# Altium integrated library Lattice CPLD ispMACH 5000VG.IntLib: 24 symbols (part 2 of 5)
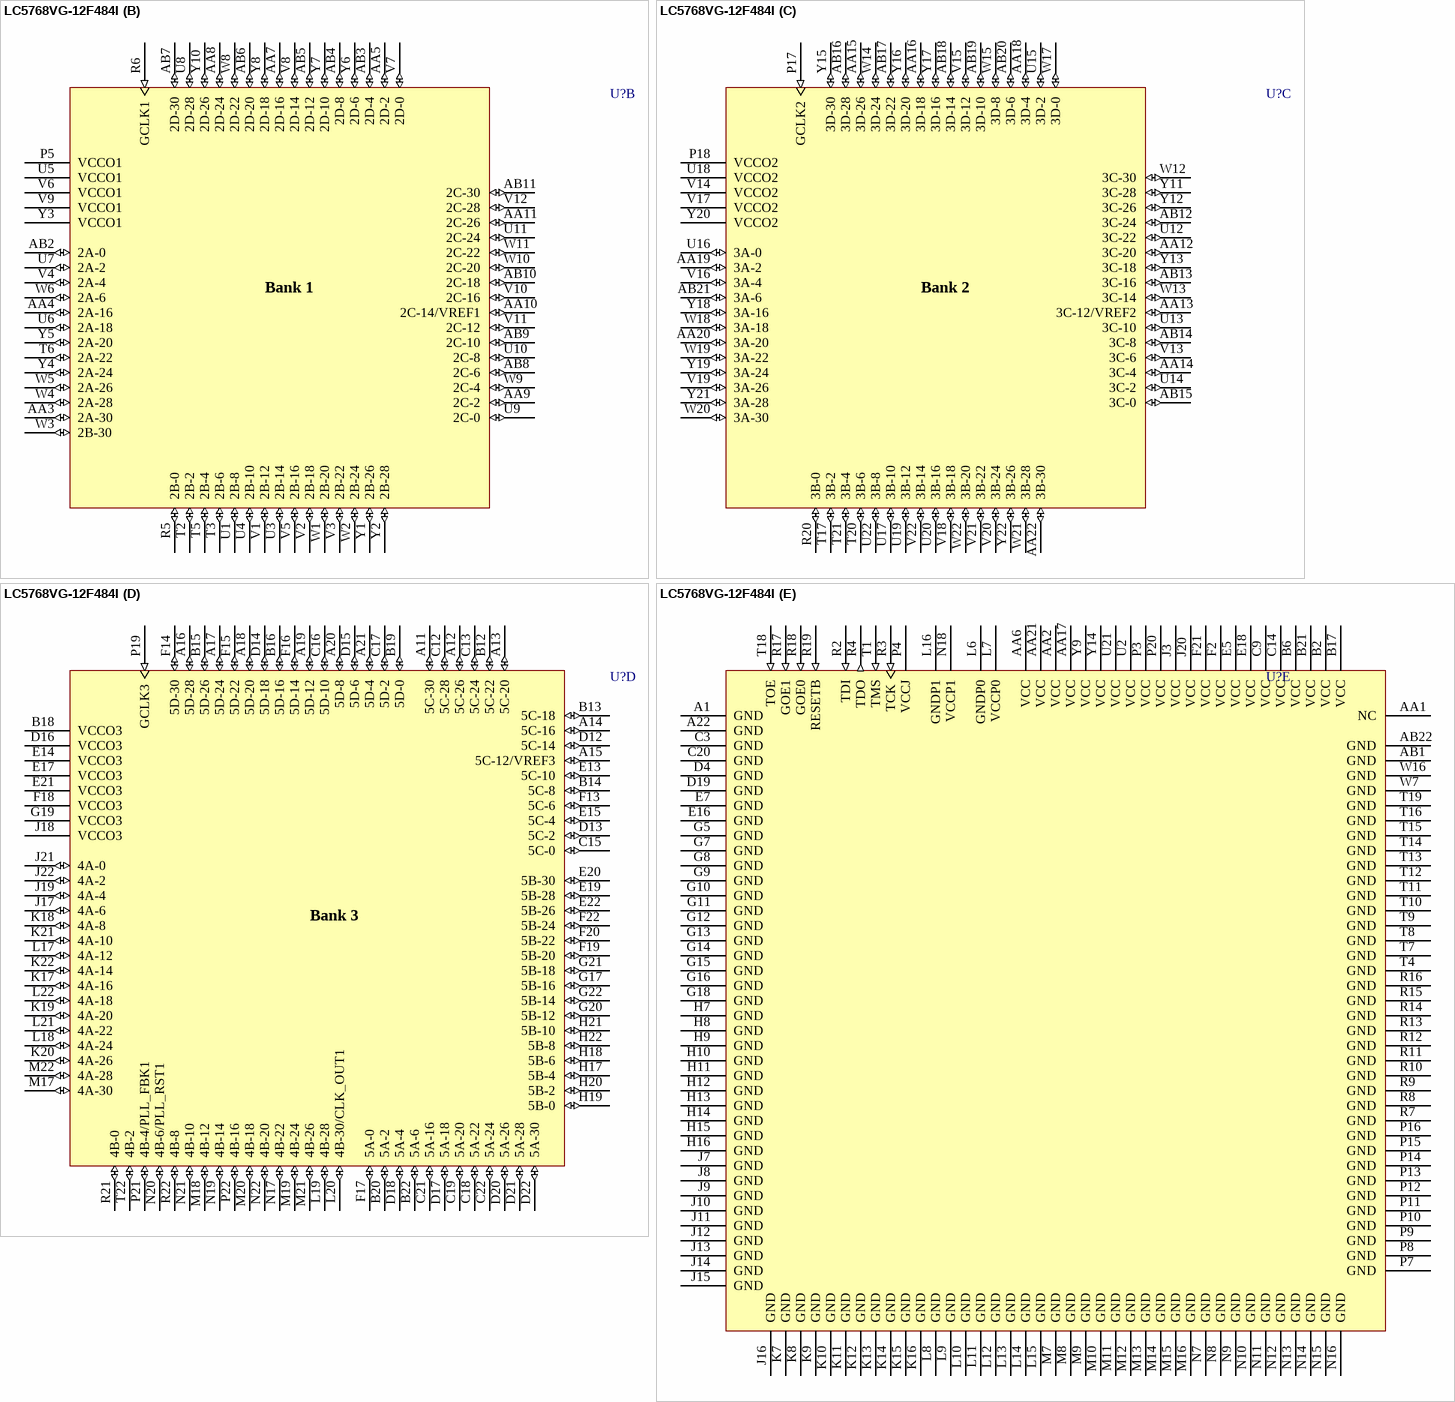
[diagram p34: symbol LC5768VG-12F484I]

## LC5768VG-12F484I
designator U?
ispMACH 5768VG SuperBIG, SuperWIDE, High Density PLD, 3.3 V, 304 User I/Os, 484-Ball fpBGA, 12 ns, Industrial Grade; Published: 17-Dec-2003; LatestRevisionDate: 13-Apr-2006; LatestRevisionNote: IPC-7351 Footprint Added.; DatasheetVersion: 5kvg_09; PackageVersion: pkg_32, Aug-2005; PackageReference: fpBGA484; Publisher: Altium Limited; PackageDescription: 484-Ball Fine Pitch Ball Grid Array (fpBGA484); Code_IPC: BGA100P22X22-484; ComponentLink1Description: Manufacturer Link; ComponentLink1URL: http://www.latticesemi.com/; ComponentLink2Description: Datasheet; ComponentLink2URL: http://www.latticesemi.com/account/_download.cfm?AMID=3480; ComponentLink3Description: Lattice Login; ComponentLink3URL: http://www.latticesemi.com/account/login.cfm
footprint fpBGA484 (BGA, 484-Leads, Body 23x23mm, Pitch 1mm)
3D model 5768VG-fpBGA484 (484-Ball Fine Pitch Ball Grid Array (fpBGA484))
part A pins: A2 0D-2 (io), A3 0D-4 (io), A4 0D-0 (io), A5 0D-12 (io), A6 0D-24 (io), A7 0C-2 (io), A8 0C-6 (io), A9 0C-14/VREF0 (io), A10 0C-18 (io), B1 0A-20 (io), B3 0A-6 (io), B4 0A-16 (io), B5 VCCO0 (power), B7 0D-16 (io), B8 0D-30 (io), B9 0C-10 (io), B10 0C-20 (io), B11 0C-28 (io), C1 0A-30 (io), C2 0A-28 (io), C4 0A-24 (io), C5 0A-2 (io), C6 0D-8 (io), C7 0D-20 (io), C8 0D-28 (io), C10 0C-4 (io), C11 0C-24 (io), D1 0B-30 (io), D2 0B-28 (io), D3 0B-26 (io), D5 0A-18 (io), D6 0A-22 (io), D7 VCCO0 (power), D8 0D-6 (io), D9 0D-18 (io), D10 0C-16 (io), D11 0C-30 (io), E1 0B-24 (io), E2 VCCO0 (power), E3 0B-22 (io), E4 0A-26 (io), E6 VCCO0 (power), E8 0D-14 (io), E9 VCCO0 (power), E10 0C-0 (io), E11 0C-12 (io), E12 0C-26 (io), F1 0B-18 (io), F3 0B-16 (io), F4 0B-20 (io), F5 VCCO0 (power), F6 0A-4 (io), F7 0A-0 (io), F8 0D-10 (io), F9 0D-22 (io), F10 0D-26 (io), F11 0C-8 (io), F12 0C-22 (io), G1 0B-12 (io), G2 0B-10 (io), G3 0B-6 (io), G4 VCCO0 (power), G6 0B-14 (io), H1 0B-8 (io), H2 0B-4 (io), H3 1A-4 (io), H4 1A-8 (io), H5 0B-2 (io), H6 0B-0 (io), J1 1A-0 (io), J2 1A-6 (io), J4 1A-18 (io), J5 VCCO0 (power), J6 1A-12 (io), K1 1A-2 (io), K2 1A-10 (io), K3 1A-16 (io), K4 1A-26 (io), K5 1A-30 (io), K6 1A-24 (io), L1 1A-14 (io), L2 1A-20 (io), L3 1A-28 (io), L4 1B-24 (io), L5 1B-18 (io), M1 1A-22 (io), M2 1B-28 (io), M3 1B-20 (io), M4 1B-6/PLL_RST0 (io), M5 1B-8 (io), M6 1B-10 (io), N1 1B-30/CLK_OUT0 (io), N2 1B-22 (io), N3 1B-12 (io), N4 1B-4/PLL_FBK0 (io), N5 1B-0 (io), N6 1B-2 (io), P1 1B-26 (io), P2 1B-14 (io), P6 GCLK0 (in), R1 1B-16 (io)
part B pins: AA3 2A-30 (io), AA4 2A-16 (io), AA5 2D-2 (io), AA7 2D-16 (io), AA8 2D-24 (io), AA9 2C-2 (io), AA10 2C-14/VREF1 (io), AA11 2C-26 (io), AB2 2A-0 (io), AB3 2D-4 (io), AB4 2D-8 (io), AB5 2D-12 (io), AB6 2D-20 (io), AB7 2D-30 (io), AB8 2C-6 (io), AB9 2C-10 (io), AB10 2C-18 (io), AB11 2C-30 (io), P5 VCCO1 (power), R5 2B-0 (io), R6 GCLK1 (in), T2 2B-2 (io), T3 2B-6 (io), T5 2B-4 (io), T6 2A-22 (io), U1 2B-8 (io), U3 2B-14 (io), U4 2B-10 (io), U5 VCCO1 (power), U6 2A-18 (io), U7 2A-2 (io), U8 2D-28 (io), U9 2C-0 (io), U10 2C-8 (io), U11 2C-24 (io), V1 2B-12 (io), V2 2B-18 (io), V3 2B-22 (io), V4 2A-4 (io), V5 2B-16 (io), V6 VCCO1 (power), V7 2D-0 (io), V8 2D-14 (io), V9 VCCO1 (power), V10 2C-16 (io), V11 2C-12 (io), V12 2C-28 (io), W1 2B-20 (io), W2 2B-24 (io), W3 2B-30 (io), W4 2A-28 (io), W5 2A-26 (io), W6 2A-6 (io), W8 2D-22 (io), W9 2C-4 (io), W10 2C-20 (io), W11 2C-22 (io), Y1 2B-26 (io), Y2 2B-28 (io), Y3 VCCO1 (power), Y4 2A-24 (io), Y5 2A-20 (io), Y6 2D-6 (io), Y7 2D-10 (io), Y8 2D-18 (io), Y10 2D-26 (io)
part C pins: AA12 3C-20 (io), AA13 3C-12/VREF2 (io), AA14 3C-4 (io), AA15 3D-26 (io), AA16 3D-18 (io), AA18 3D-4 (io), AA19 3A-2 (io), AA20 3A-20 (io), AA22 3B-30 (io), AB12 3C-24 (io), AB13 3C-16 (io), AB14 3C-8 (io), AB15 3C-0 (io), AB16 3D-28 (io), AB17 3D-22 (io), AB18 3D-14 (io), AB19 3D-10 (io), AB20 3D-6 (io), AB21 3A-6 (io), P17 GCLK2 (in), P18 VCCO2 (power), R20 3B-0 (io), T17 3B-2 (io), T20 3B-6 (io), T21 3B-4 (io), U12 3C-22 (io), U13 3C-10 (io), U14 3C-2 (io), U15 3D-2 (io), U16 3A-0 (io), U17 3B-10 (io), U18 VCCO2 (power), U19 3B-12 (io), U20 3B-16 (io), U22 3B-8 (io), V13 3C-6 (io), V14 VCCO2 (power), V15 3D-12 (io), V16 3A-4 (io), V17 VCCO2 (power), V18 3B-18 (io), V19 3A-26 (io), V20 3B-24 (io), V21 3B-22 (io), V22 3B-14 (io), W12 3C-30 (io), W13 3C-14 (io), W14 3D-24 (io), W15 3D-8 (io), W17 3D-0 (io), W18 3A-18 (io), W19 3A-22 (io), W20 3A-30 (io), W21 3B-28 (io), W22 3B-20 (io), Y11 3C-28 (io), Y12 3C-26 (io), Y13 3C-18 (io), Y15 3D-30 (io), Y16 3D-20 (io), Y17 3D-16 (io), Y18 3A-16 (io), Y19 3A-24 (io), Y20 VCCO2 (power), Y21 3A-28 (io), Y22 3B-26 (io)
part D pins: A11 5C-30 (io), A12 5C-26 (io), A13 5C-20 (io), A14 5C-16 (io), A15 5C-12/VREF3 (io), A16 5D-28 (io), A17 5D-24 (io), A18 5D-20 (io), A19 5D-12 (io), A20 5D-8 (io), A21 5D-4 (io), B12 5C-22 (io), B13 5C-18 (io), B14 5C-8 (io), B15 5D-26 (io), B16 5D-16 (io), B18 VCCO3 (power), B19 5D-0 (io), B20 5A-2 (io), B22 5A-6 (io), C12 5C-28 (io), C13 5C-24 (io), C15 5C-0 (io), C16 5D-10 (io), C17 5D-2 (io), C18 5A-22 (io), C19 5A-20 (io), C21 5A-16 (io), C22 5A-24 (io), D12 5C-14 (io), D13 5C-2 (io), D14 5D-18 (io), D15 5D-6 (io), D16 VCCO3 (power), D17 5A-18 (io), D18 5A-4 (io), D20 5A-26 (io), D21 5A-28 (io), D22 5A-30 (io), E13 5C-10 (io), E14 VCCO3 (power), E15 5C-4 (io), E17 VCCO3 (power), E19 5B-28 (io), E20 5B-30 (io), E21 VCCO3 (power), E22 5B-26 (io), F13 5C-6 (io), F14 5D-30 (io), F15 5D-22 (io), F16 5D-14 (io), F17 5A-0 (io), F18 VCCO3 (power), F19 5B-20 (io), F20 5B-22 (io), F22 5B-24 (io), G17 5B-16 (io), G19 VCCO3 (power), G20 5B-12 (io), G21 5B-18 (io), G22 5B-14 (io), H17 5B-4 (io), H18 5B-6 (io), H19 5B-0 (io), H20 5B-2 (io), H21 5B-10 (io), H22 5B-8 (io), J17 4A-6 (io), J18 VCCO3 (power), J19 4A-4 (io), J21 4A-0 (io), J22 4A-2 (io), K17 4A-16 (io), K18 4A-8 (io), K19 4A-20 (io), K20 4A-26 (io), K21 4A-10 (io), K22 4A-14 (io), L17 4A-12 (io), L18 4A-24 (io), L19 4B-28 (io), L20 4B-30/CLK_OUT1 (io), L21 4A-22 (io), L22 4A-18 (io), M17 4A-30 (io), M18 4B-12 (io), M19 4B-24 (io), M20 4B-18 (io), M21 4B-26 (io), M22 4A-28 (io), N17 4B-22 (io), N19 4B-14 (io), N20 4B-6/PLL_RST1 (io), N21 4B-10 (io), N22 4B-20 (io), P19 GCLK3 (in), P21 4B-4/PLL_FBK1 (io), P22 4B-16 (io), R21 4B-0 (io), R22 4B-8 (io), T22 4B-2 (io)
part E pins: A1 GND (power), A22 GND (power), AA1 NC, AA2 VCC (power), AA6 VCC (power), AA17 VCC (power), AA21 VCC (power), AB1 GND (power), AB22 GND (power), B2 VCC (power), B6 VCC (power), B17 VCC (power), B21 VCC (power), C3 GND (power), C9 VCC (power), C14 VCC (power), C20 GND (power), D4 GND (power), D19 GND (power), E5 VCC (power), E7 GND (power), E16 GND (power), E18 VCC (power), F2 VCC (power), F21 VCC (power), G5 GND (power), G7 GND (power), G8 GND (power), G9 GND (power), G10 GND (power), G11 GND (power), G12 GND (power), G13 GND (power), G14 GND (power), G15 GND (power), G16 GND (power), G18 GND (power), H7 GND (power), H8 GND (power), H9 GND (power), H10 GND (power), H11 GND (power), H12 GND (power), H13 GND (power), H14 GND (power), H15 GND (power), H16 GND (power), J3 VCC (power), J7 GND (power), J8 GND (power), J9 GND (power), J10 GND (power), J11 GND (power), J12 GND (power), J13 GND (power), J14 GND (power), J15 GND (power), J16 GND (power), J20 VCC (power), K7 GND (power), K8 GND (power), K9 GND (power), K10 GND (power), K11 GND (power), K12 GND (power), K13 GND (power), K14 GND (power), K15 GND (power), K16 GND (power), L6 GNDP0 (power), L7 VCCP0 (power), L8 GND (power), L9 GND (power), L10 GND (power), L11 GND (power), L12 GND (power), L13 GND (power), L14 GND (power), L15 GND (power), L16 GNDP1 (power), M7 GND (power), M8 GND (power), M9 GND (power), M10 GND (power), M11 GND (power), M12 GND (power), M13 GND (power), M14 GND (power), M15 GND (power), M16 GND (power), N7 GND (power), N8 GND (power), N9 GND (power), N10 GND (power), N11 GND (power), N12 GND (power), N13 GND (power), N14 GND (power), N15 GND (power), N16 GND (power), N18 VCCP1 (power), P3 VCC (power), P4 VCCJ (power), P7 GND (power), P8 GND (power), P9 GND (power), P10 GND (power), P11 GND (power), P12 GND (power), P13 GND (power), P14 GND (power), P15 GND (power), P16 GND (power), P20 VCC (power), R2 TDI (in), R3 TCK (in), R4 TDO (out), R7 GND (power), R8 GND (power), R9 GND (power), R10 GND (power), R11 GND (power), R12 GND (power), R13 GND (power), R14 GND (power), R15 GND (power), R16 GND (power), R17 GOE1 (in), R18 GOE0 (in), R19 RESETB (in), T1 TMS (in), T4 GND (power), T7 GND (power), T8 GND (power), T9 GND (power), T10 GND (power), T11 GND (power), T12 GND (power), T13 GND (power), T14 GND (power), T15 GND (power), T16 GND (power), T18 TOE (in), T19 GND (power), U2 VCC (power), U21 VCC (power), W7 GND (power), W16 GND (power), Y9 VCC (power), Y14 VCC (power)
part A text: Bank 0
part B text: Bank 1
part C text: Bank 2
part D text: Bank 3

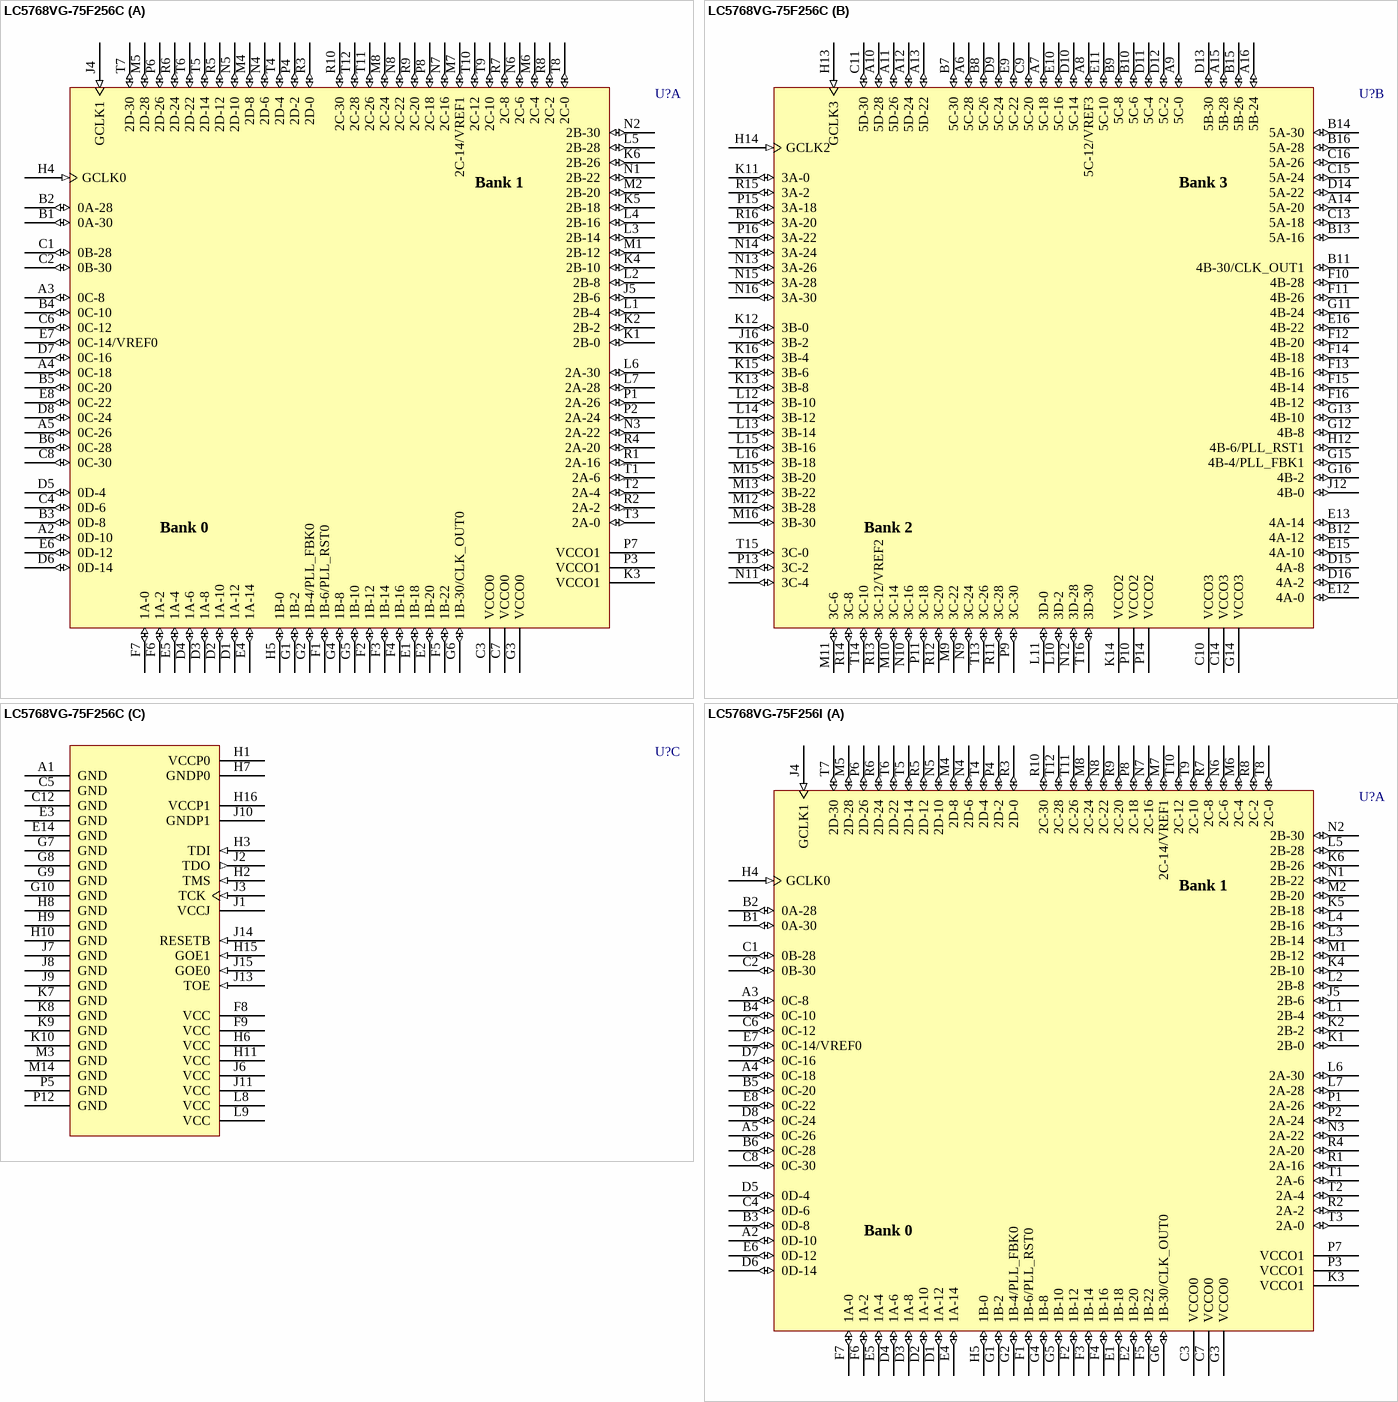
[diagram p8: symbols LC5768VG-75F256C to LC5768VG-75F256I]

## LC5768VG-75F256C
designator U?
ispMACH 5768VG SuperBIG, SuperWIDE, High Density PLD, 3.3 V, 196 User I/Os, 256-Ball fpBGA, 7.5 ns, Commercial Grade; Published: 17-Dec-2003; LatestRevisionDate: 13-Apr-2006; LatestRevisionNote: IPC-7351 Footprint Added.; DatasheetVersion: 5kvg_09; PackageVersion: pkg_32, Aug-2005; PackageReference: fpBGA256; Publisher: Altium Limited; PackageDescription: 256-Ball Fine Pitch Ball Grid Array (fpBGA256); Code_IPC: BGA100P16X16-256; ComponentLink1Description: Manufacturer Link; ComponentLink1URL: http://www.latticesemi.com/; ComponentLink2Description: Datasheet; ComponentLink2URL: http://www.latticesemi.com/account/_download.cfm?AMID=3480; ComponentLink3Description: Lattice Login; ComponentLink3URL: http://www.latticesemi.com/account/login.cfm
footprint fpBGA256 (BGA, 256-Leads, Body 17x17mm, Pitch 1mm)
3D model 5768VG-fpBGA256 (256-Ball Fine Pitch Ball Grid Array (fpBGA256))
part A pins: A2 0D-10 (io), A3 0C-8 (io), A4 0C-18 (io), A5 0C-26 (io), B1 0A-30 (io), B2 0A-28 (io), B3 0D-8 (io), B4 0C-10 (io), B5 0C-20 (io), B6 0C-28 (io), C1 0B-28 (io), C2 0B-30 (io), C3 VCCO0 (power), C4 0D-6 (io), C6 0C-12 (io), C7 VCCO0 (power), C8 0C-30 (io), D1 1A-12 (io), D2 1A-10 (io), D3 1A-8 (io), D4 1A-6 (io), D5 0D-4 (io), D6 0D-14 (io), D7 0C-16 (io), D8 0C-24 (io), E1 1B-18 (io), E2 1B-20 (io), E4 1A-14 (io), E5 1A-4 (io), E6 0D-12 (io), E7 0C-14/VREF0 (io), E8 0C-22 (io), F1 1B-6/PLL_RST0 (io), F2 1B-12 (io), F3 1B-14 (io), F4 1B-16 (io), F5 1B-22 (io), F6 1A-2 (io), F7 1A-0 (io), G1 1B-2 (io), G2 1B-4/PLL_FBK0 (io), G3 VCCO0 (power), G4 1B-8 (io), G5 1B-10 (io), G6 1B-30/CLK_OUT0 (io), H4 GCLK0 (in), H5 1B-0 (io), J4 GCLK1 (in), J5 2B-6 (io), K1 2B-0 (io), K2 2B-2 (io), K3 VCCO1 (power), K4 2B-10 (io), K5 2B-18 (io), K6 2B-26 (io), L1 2B-4 (io), L2 2B-8 (io), L3 2B-14 (io), L4 2B-16 (io), L5 2B-28 (io), L6 2A-30 (io), L7 2A-28 (io), M1 2B-12 (io), M2 2B-20 (io), M4 2D-8 (io), M5 2D-28 (io), M6 2C-4 (io), M7 2C-14/VREF1 (io), M8 2C-24 (io), N1 2B-22 (io), N2 2B-30 (io), N3 2A-22 (io), N4 2D-6 (io), N5 2D-10 (io), N6 2C-6 (io), N7 2C-16 (io), N8 2C-22 (io), P1 2A-26 (io), P2 2A-24 (io), P3 VCCO1 (power), P4 2D-2 (io), P6 2D-26 (io), P7 VCCO1 (power), P8 2C-18 (io), R1 2A-16 (io), R2 2A-2 (io), R3 2D-0 (io), R4 2A-20 (io), R5 2D-12 (io), R6 2D-24 (io), R7 2C-8 (io), R8 2C-2 (io), R9 2C-20 (io), R10 2C-30 (io), T1 2A-6 (io), T2 2A-4 (io), T3 2A-0 (io), T4 2D-4 (io), T5 2D-14 (io), T6 2D-22 (io), T7 2D-30 (io), T8 2C-0 (io), T9 2C-10 (io), T10 2C-12 (io), T11 2C-26 (io), T12 2C-28 (io)
part B pins: A6 5C-28 (io), A7 5C-18 (io), A8 5C-12/VREF3 (io), A9 5C-0 (io), A10 5D-28 (io), A11 5D-26 (io), A12 5D-24 (io), A13 5D-22 (io), A14 5A-20 (io), A15 5B-28 (io), A16 5B-24 (io), B7 5C-30 (io), B8 5C-26 (io), B9 5C-8 (io), B10 5C-6 (io), B11 4B-30/CLK_OUT1 (io), B12 4A-12 (io), B13 5A-16 (io), B14 5A-30 (io), B15 5B-26 (io), B16 5A-28 (io), C9 5C-20 (io), C10 VCCO3 (power), C11 5D-30 (io), C13 5A-18 (io), C14 VCCO3 (power), C15 5A-24 (io), C16 5A-26 (io), D9 5C-24 (io), D10 5C-14 (io), D11 5C-4 (io), D12 5C-2 (io), D13 5B-30 (io), D14 5A-22 (io), D15 4A-8 (io), D16 4A-2 (io), E9 5C-22 (io), E10 5C-16 (io), E11 5C-10 (io), E12 4A-0 (io), E13 4A-14 (io), E15 4A-10 (io), E16 4B-22 (io), F10 4B-28 (io), F11 4B-26 (io), F12 4B-20 (io), F13 4B-16 (io), F14 4B-18 (io), F15 4B-14 (io), F16 4B-12 (io), G11 4B-24 (io), G12 4B-8 (io), G13 4B-10 (io), G14 VCCO3 (power), G15 4B-4/PLL_FBK1 (io), G16 4B-2 (io), H12 4B-6/PLL_RST1 (io), H13 GCLK3 (in), H14 GCLK2 (in), J12 4B-0 (io), J16 3B-2 (io), K11 3A-0 (io), K12 3B-0 (io), K13 3B-8 (io), K14 VCCO2 (power), K15 3B-6 (io), K16 3B-4 (io), L10 3D-2 (io), L11 3D-0 (io), L12 3B-10 (io), L13 3B-14 (io), L14 3B-12 (io), L15 3B-16 (io), L16 3B-18 (io), M9 3C-22 (io), M10 3C-14 (io), M11 3C-6 (io), M12 3B-28 (io), M13 3B-22 (io), M15 3B-20 (io), M16 3B-30 (io), N9 3C-24 (io), N10 3C-16 (io), N11 3C-4 (io), N12 3D-28 (io), N13 3A-26 (io), N14 3A-24 (io), N15 3A-28 (io), N16 3A-30 (io), P9 3C-30 (io), P10 VCCO2 (power), P11 3C-18 (io), P13 3C-2 (io), P14 VCCO2 (power), P15 3A-18 (io), P16 3A-22 (io), R11 3C-28 (io), R12 3C-20 (io), R13 3C-12/VREF2 (io), R14 3C-8 (io), R15 3A-2 (io), R16 3A-20 (io), T13 3C-26 (io), T14 3C-10 (io), T15 3C-0 (io), T16 3D-30 (io)
part C pins: A1 GND (power), C5 GND (power), C12 GND (power), E3 GND (power), E14 GND (power), F8 VCC (power), F9 VCC (power), G7 GND (power), G8 GND (power), G9 GND (power), G10 GND (power), H1 VCCP0 (power), H2 TMS (in), H3 TDI (in), H6 VCC (power), H7 GNDP0 (power), H8 GND (power), H9 GND (power), H10 GND (power), H11 VCC (power), H15 GOE1 (in), H16 VCCP1 (power), J1 VCCJ (power), J2 TDO (out), J3 TCK (in), J6 VCC (power), J7 GND (power), J8 GND (power), J9 GND (power), J10 GNDP1 (power), J11 VCC (power), J13 TOE (in), J14 RESETB (in), J15 GOE0 (in), K7 GND (power), K8 GND (power), K9 GND (power), K10 GND (power), L8 VCC (power), L9 VCC (power), M3 GND (power), M14 GND (power), P5 GND (power), P12 GND (power)
part A text: Bank 1; Bank 0
part B text: Bank 3; Bank 2

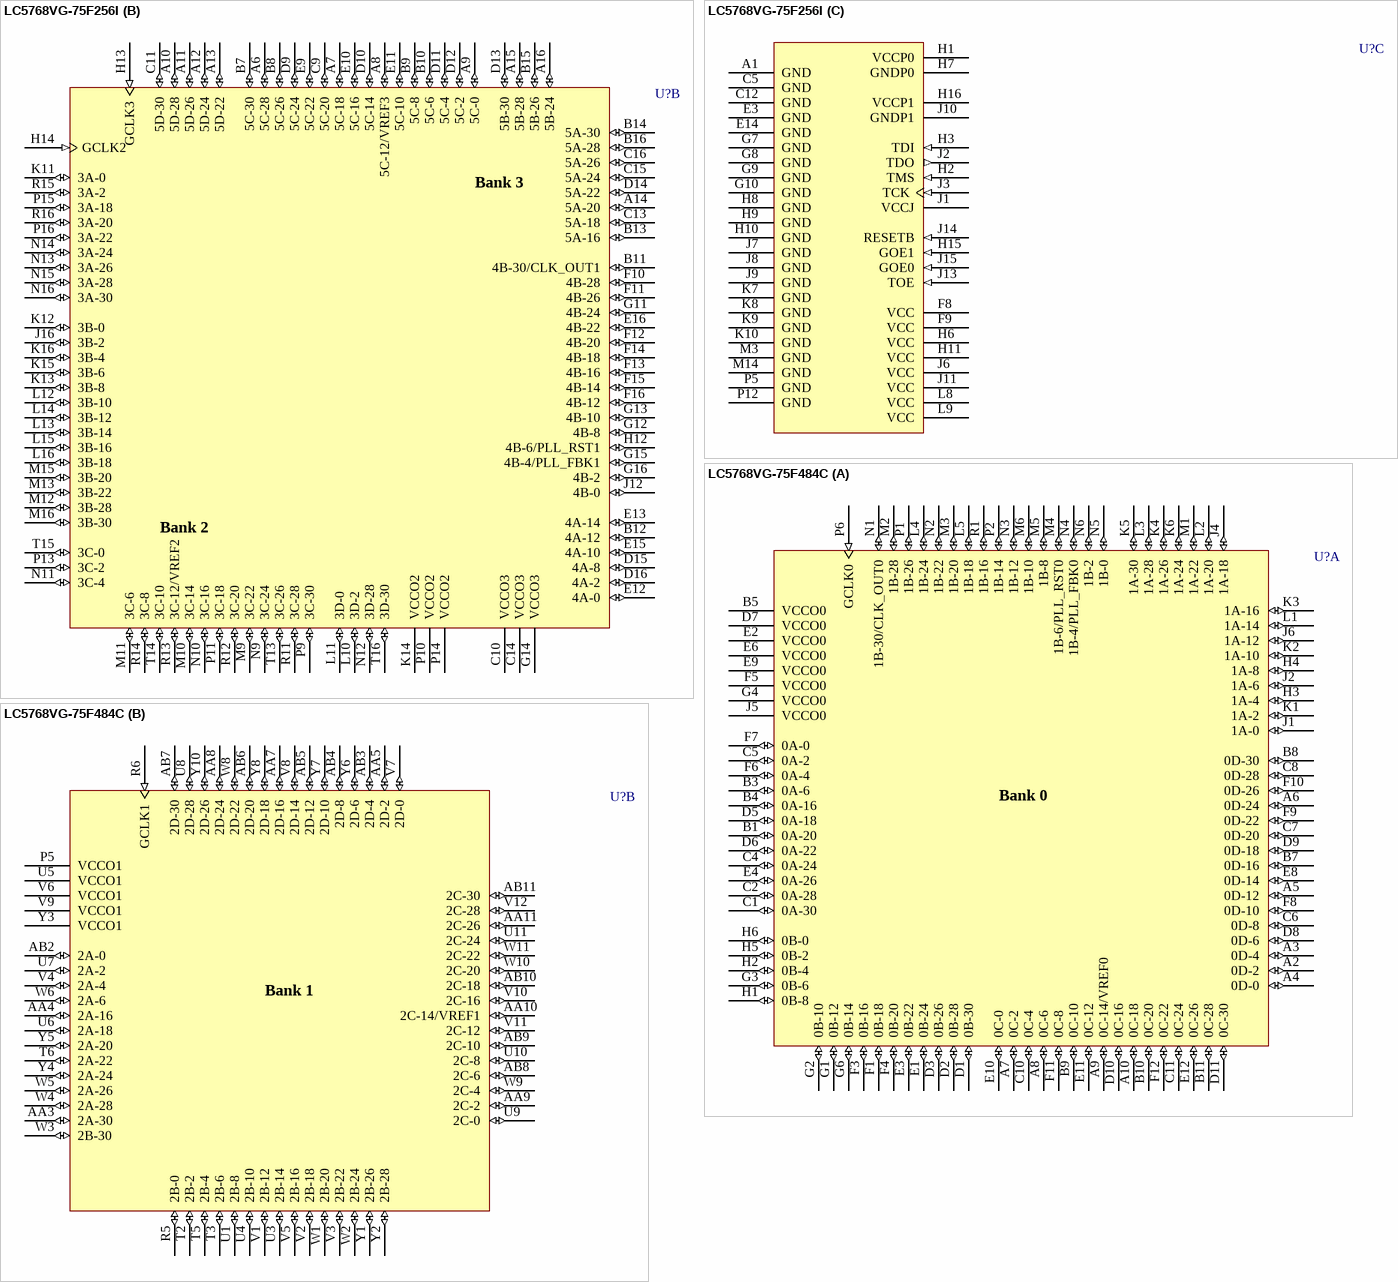
[diagram p9: symbols LC5768VG-75F256I to LC5768VG-75F484C]

## LC5768VG-75F256I
designator U?
ispMACH 5768VG SuperBIG, SuperWIDE, High Density PLD, 3.3 V, 196 User I/Os, 256-Ball fpBGA, 7.5 ns, Industrial Grade; Published: 17-Dec-2003; LatestRevisionDate: 13-Apr-2006; LatestRevisionNote: IPC-7351 Footprint Added.; DatasheetVersion: 5kvg_09; PackageVersion: pkg_32, Aug-2005; PackageReference: fpBGA256; Publisher: Altium Limited; PackageDescription: 256-Ball Fine Pitch Ball Grid Array (fpBGA256); Code_IPC: BGA100P16X16-256; ComponentLink1Description: Manufacturer Link; ComponentLink1URL: http://www.latticesemi.com/; ComponentLink2Description: Datasheet; ComponentLink2URL: http://www.latticesemi.com/account/_download.cfm?AMID=3480; ComponentLink3Description: Lattice Login; ComponentLink3URL: http://www.latticesemi.com/account/login.cfm
footprint fpBGA256 (BGA, 256-Leads, Body 17x17mm, Pitch 1mm)
3D model 5768VG-fpBGA256 (256-Ball Fine Pitch Ball Grid Array (fpBGA256))
part A pins: A2 0D-10 (io), A3 0C-8 (io), A4 0C-18 (io), A5 0C-26 (io), B1 0A-30 (io), B2 0A-28 (io), B3 0D-8 (io), B4 0C-10 (io), B5 0C-20 (io), B6 0C-28 (io), C1 0B-28 (io), C2 0B-30 (io), C3 VCCO0 (power), C4 0D-6 (io), C6 0C-12 (io), C7 VCCO0 (power), C8 0C-30 (io), D1 1A-12 (io), D2 1A-10 (io), D3 1A-8 (io), D4 1A-6 (io), D5 0D-4 (io), D6 0D-14 (io), D7 0C-16 (io), D8 0C-24 (io), E1 1B-18 (io), E2 1B-20 (io), E4 1A-14 (io), E5 1A-4 (io), E6 0D-12 (io), E7 0C-14/VREF0 (io), E8 0C-22 (io), F1 1B-6/PLL_RST0 (io), F2 1B-12 (io), F3 1B-14 (io), F4 1B-16 (io), F5 1B-22 (io), F6 1A-2 (io), F7 1A-0 (io), G1 1B-2 (io), G2 1B-4/PLL_FBK0 (io), G3 VCCO0 (power), G4 1B-8 (io), G5 1B-10 (io), G6 1B-30/CLK_OUT0 (io), H4 GCLK0 (in), H5 1B-0 (io), J4 GCLK1 (in), J5 2B-6 (io), K1 2B-0 (io), K2 2B-2 (io), K3 VCCO1 (power), K4 2B-10 (io), K5 2B-18 (io), K6 2B-26 (io), L1 2B-4 (io), L2 2B-8 (io), L3 2B-14 (io), L4 2B-16 (io), L5 2B-28 (io), L6 2A-30 (io), L7 2A-28 (io), M1 2B-12 (io), M2 2B-20 (io), M4 2D-8 (io), M5 2D-28 (io), M6 2C-4 (io), M7 2C-14/VREF1 (io), M8 2C-24 (io), N1 2B-22 (io), N2 2B-30 (io), N3 2A-22 (io), N4 2D-6 (io), N5 2D-10 (io), N6 2C-6 (io), N7 2C-16 (io), N8 2C-22 (io), P1 2A-26 (io), P2 2A-24 (io), P3 VCCO1 (power), P4 2D-2 (io), P6 2D-26 (io), P7 VCCO1 (power), P8 2C-18 (io), R1 2A-16 (io), R2 2A-2 (io), R3 2D-0 (io), R4 2A-20 (io), R5 2D-12 (io), R6 2D-24 (io), R7 2C-8 (io), R8 2C-2 (io), R9 2C-20 (io), R10 2C-30 (io), T1 2A-6 (io), T2 2A-4 (io), T3 2A-0 (io), T4 2D-4 (io), T5 2D-14 (io), T6 2D-22 (io), T7 2D-30 (io), T8 2C-0 (io), T9 2C-10 (io), T10 2C-12 (io), T11 2C-26 (io), T12 2C-28 (io)
part B pins: A6 5C-28 (io), A7 5C-18 (io), A8 5C-12/VREF3 (io), A9 5C-0 (io), A10 5D-28 (io), A11 5D-26 (io), A12 5D-24 (io), A13 5D-22 (io), A14 5A-20 (io), A15 5B-28 (io), A16 5B-24 (io), B7 5C-30 (io), B8 5C-26 (io), B9 5C-8 (io), B10 5C-6 (io), B11 4B-30/CLK_OUT1 (io), B12 4A-12 (io), B13 5A-16 (io), B14 5A-30 (io), B15 5B-26 (io), B16 5A-28 (io), C9 5C-20 (io), C10 VCCO3 (power), C11 5D-30 (io), C13 5A-18 (io), C14 VCCO3 (power), C15 5A-24 (io), C16 5A-26 (io), D9 5C-24 (io), D10 5C-14 (io), D11 5C-4 (io), D12 5C-2 (io), D13 5B-30 (io), D14 5A-22 (io), D15 4A-8 (io), D16 4A-2 (io), E9 5C-22 (io), E10 5C-16 (io), E11 5C-10 (io), E12 4A-0 (io), E13 4A-14 (io), E15 4A-10 (io), E16 4B-22 (io), F10 4B-28 (io), F11 4B-26 (io), F12 4B-20 (io), F13 4B-16 (io), F14 4B-18 (io), F15 4B-14 (io), F16 4B-12 (io), G11 4B-24 (io), G12 4B-8 (io), G13 4B-10 (io), G14 VCCO3 (power), G15 4B-4/PLL_FBK1 (io), G16 4B-2 (io), H12 4B-6/PLL_RST1 (io), H13 GCLK3 (in), H14 GCLK2 (in), J12 4B-0 (io), J16 3B-2 (io), K11 3A-0 (io), K12 3B-0 (io), K13 3B-8 (io), K14 VCCO2 (power), K15 3B-6 (io), K16 3B-4 (io), L10 3D-2 (io), L11 3D-0 (io), L12 3B-10 (io), L13 3B-14 (io), L14 3B-12 (io), L15 3B-16 (io), L16 3B-18 (io), M9 3C-22 (io), M10 3C-14 (io), M11 3C-6 (io), M12 3B-28 (io), M13 3B-22 (io), M15 3B-20 (io), M16 3B-30 (io), N9 3C-24 (io), N10 3C-16 (io), N11 3C-4 (io), N12 3D-28 (io), N13 3A-26 (io), N14 3A-24 (io), N15 3A-28 (io), N16 3A-30 (io), P9 3C-30 (io), P10 VCCO2 (power), P11 3C-18 (io), P13 3C-2 (io), P14 VCCO2 (power), P15 3A-18 (io), P16 3A-22 (io), R11 3C-28 (io), R12 3C-20 (io), R13 3C-12/VREF2 (io), R14 3C-8 (io), R15 3A-2 (io), R16 3A-20 (io), T13 3C-26 (io), T14 3C-10 (io), T15 3C-0 (io), T16 3D-30 (io)
part C pins: A1 GND (power), C5 GND (power), C12 GND (power), E3 GND (power), E14 GND (power), F8 VCC (power), F9 VCC (power), G7 GND (power), G8 GND (power), G9 GND (power), G10 GND (power), H1 VCCP0 (power), H2 TMS (in), H3 TDI (in), H6 VCC (power), H7 GNDP0 (power), H8 GND (power), H9 GND (power), H10 GND (power), H11 VCC (power), H15 GOE1 (in), H16 VCCP1 (power), J1 VCCJ (power), J2 TDO (out), J3 TCK (in), J6 VCC (power), J7 GND (power), J8 GND (power), J9 GND (power), J10 GNDP1 (power), J11 VCC (power), J13 TOE (in), J14 RESETB (in), J15 GOE0 (in), K7 GND (power), K8 GND (power), K9 GND (power), K10 GND (power), L8 VCC (power), L9 VCC (power), M3 GND (power), M14 GND (power), P5 GND (power), P12 GND (power)
part A text: Bank 1; Bank 0
part B text: Bank 3; Bank 2

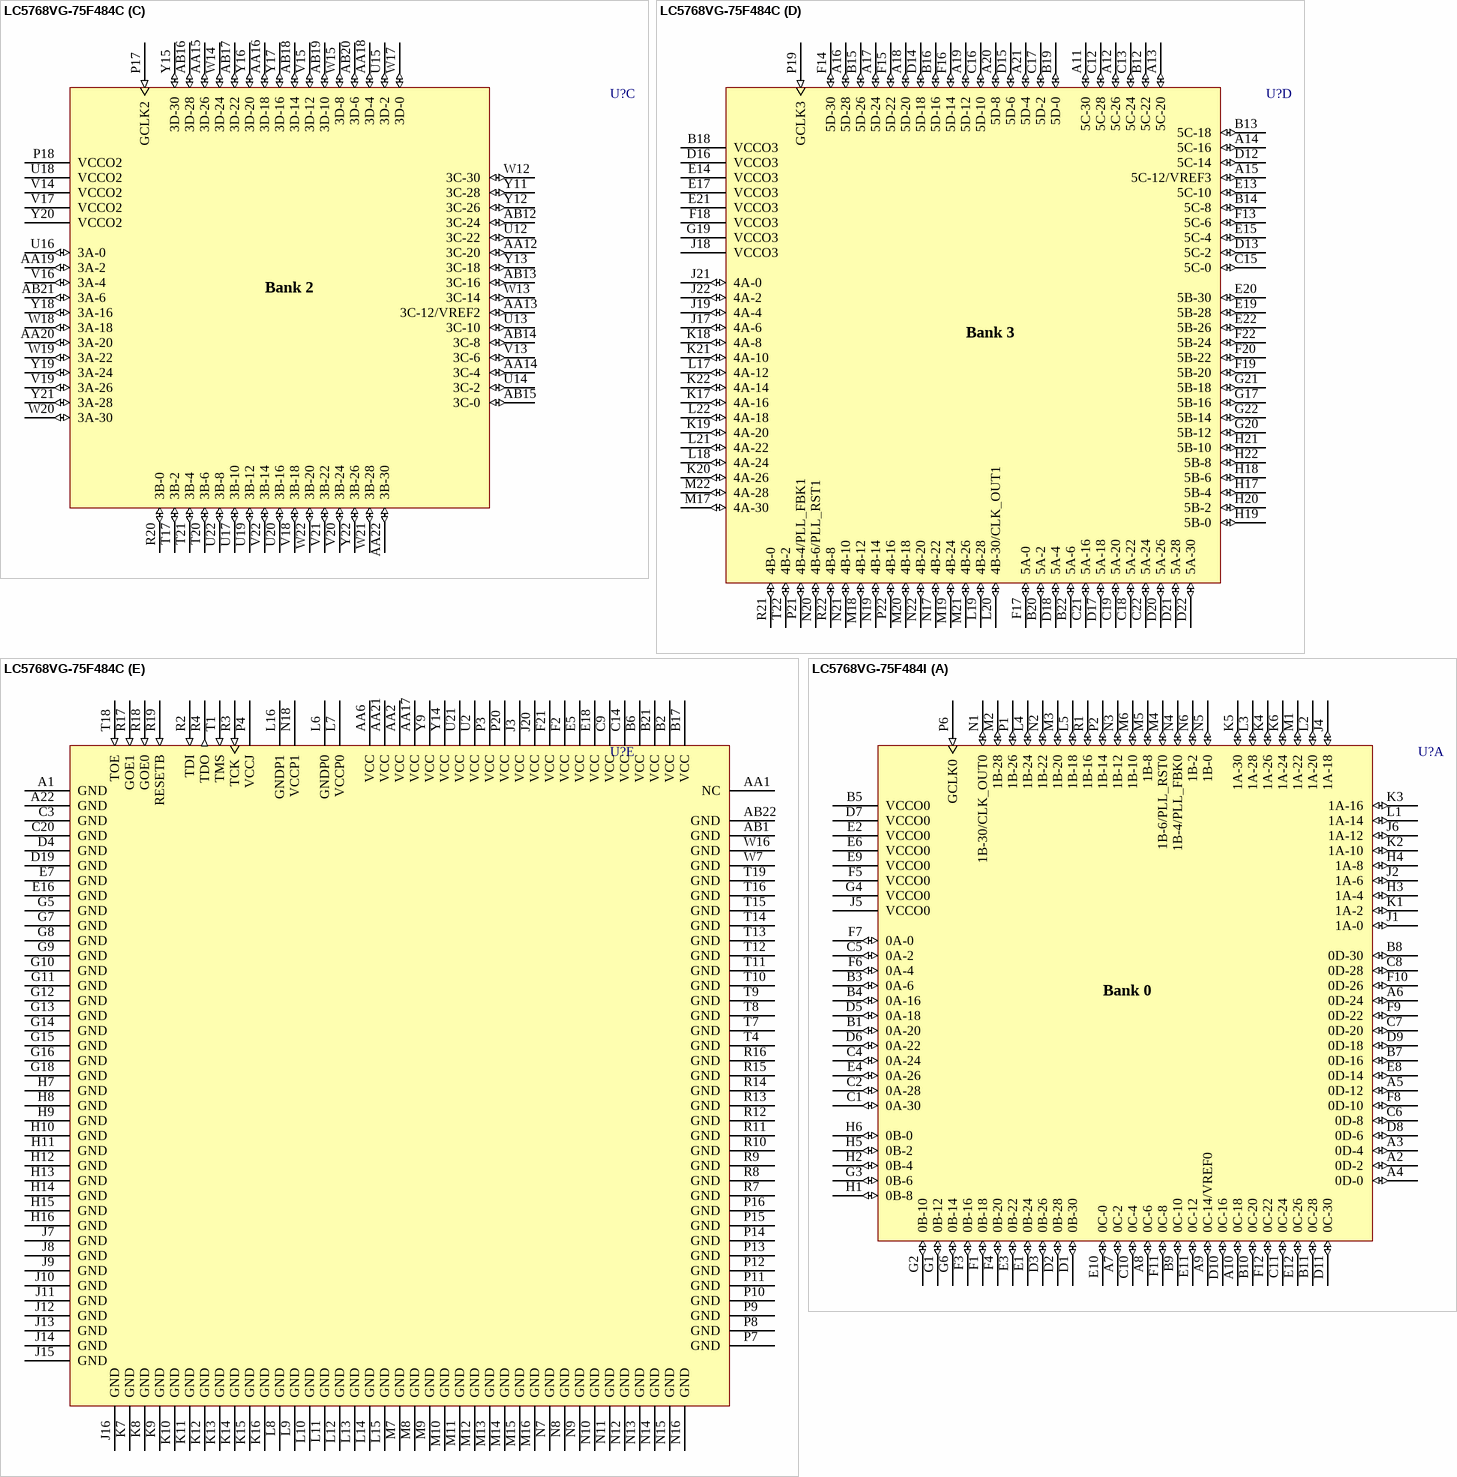
[diagram p10: symbols LC5768VG-75F484C to LC5768VG-75F484I]

## LC5768VG-75F484C
designator U?
ispMACH 5768VG SuperBIG, SuperWIDE, High Density PLD, 3.3 V, 304 User I/Os, 484-Ball fpBGA, 7.5 ns, Commercial Grade; Published: 17-Dec-2003; LatestRevisionDate: 13-Apr-2006; LatestRevisionNote: IPC-7351 Footprint Added.; DatasheetVersion: 5kvg_09; PackageVersion: pkg_32, Aug-2005; PackageReference: fpBGA484; Publisher: Altium Limited; PackageDescription: 484-Ball Fine Pitch Ball Grid Array (fpBGA484); Code_IPC: BGA100P22X22-484; ComponentLink1Description: Manufacturer Link; ComponentLink1URL: http://www.latticesemi.com/; ComponentLink2Description: Datasheet; ComponentLink2URL: http://www.latticesemi.com/account/_download.cfm?AMID=3480; ComponentLink3Description: Lattice Login; ComponentLink3URL: http://www.latticesemi.com/account/login.cfm
footprint fpBGA484 (BGA, 484-Leads, Body 23x23mm, Pitch 1mm)
3D model 5768VG-fpBGA484 (484-Ball Fine Pitch Ball Grid Array (fpBGA484))
part A pins: A2 0D-2 (io), A3 0D-4 (io), A4 0D-0 (io), A5 0D-12 (io), A6 0D-24 (io), A7 0C-2 (io), A8 0C-6 (io), A9 0C-14/VREF0 (io), A10 0C-18 (io), B1 0A-20 (io), B3 0A-6 (io), B4 0A-16 (io), B5 VCCO0 (power), B7 0D-16 (io), B8 0D-30 (io), B9 0C-10 (io), B10 0C-20 (io), B11 0C-28 (io), C1 0A-30 (io), C2 0A-28 (io), C4 0A-24 (io), C5 0A-2 (io), C6 0D-8 (io), C7 0D-20 (io), C8 0D-28 (io), C10 0C-4 (io), C11 0C-24 (io), D1 0B-30 (io), D2 0B-28 (io), D3 0B-26 (io), D5 0A-18 (io), D6 0A-22 (io), D7 VCCO0 (power), D8 0D-6 (io), D9 0D-18 (io), D10 0C-16 (io), D11 0C-30 (io), E1 0B-24 (io), E2 VCCO0 (power), E3 0B-22 (io), E4 0A-26 (io), E6 VCCO0 (power), E8 0D-14 (io), E9 VCCO0 (power), E10 0C-0 (io), E11 0C-12 (io), E12 0C-26 (io), F1 0B-18 (io), F3 0B-16 (io), F4 0B-20 (io), F5 VCCO0 (power), F6 0A-4 (io), F7 0A-0 (io), F8 0D-10 (io), F9 0D-22 (io), F10 0D-26 (io), F11 0C-8 (io), F12 0C-22 (io), G1 0B-12 (io), G2 0B-10 (io), G3 0B-6 (io), G4 VCCO0 (power), G6 0B-14 (io), H1 0B-8 (io), H2 0B-4 (io), H3 1A-4 (io), H4 1A-8 (io), H5 0B-2 (io), H6 0B-0 (io), J1 1A-0 (io), J2 1A-6 (io), J4 1A-18 (io), J5 VCCO0 (power), J6 1A-12 (io), K1 1A-2 (io), K2 1A-10 (io), K3 1A-16 (io), K4 1A-26 (io), K5 1A-30 (io), K6 1A-24 (io), L1 1A-14 (io), L2 1A-20 (io), L3 1A-28 (io), L4 1B-24 (io), L5 1B-18 (io), M1 1A-22 (io), M2 1B-28 (io), M3 1B-20 (io), M4 1B-6/PLL_RST0 (io), M5 1B-8 (io), M6 1B-10 (io), N1 1B-30/CLK_OUT0 (io), N2 1B-22 (io), N3 1B-12 (io), N4 1B-4/PLL_FBK0 (io), N5 1B-0 (io), N6 1B-2 (io), P1 1B-26 (io), P2 1B-14 (io), P6 GCLK0 (in), R1 1B-16 (io)
part B pins: AA3 2A-30 (io), AA4 2A-16 (io), AA5 2D-2 (io), AA7 2D-16 (io), AA8 2D-24 (io), AA9 2C-2 (io), AA10 2C-14/VREF1 (io), AA11 2C-26 (io), AB2 2A-0 (io), AB3 2D-4 (io), AB4 2D-8 (io), AB5 2D-12 (io), AB6 2D-20 (io), AB7 2D-30 (io), AB8 2C-6 (io), AB9 2C-10 (io), AB10 2C-18 (io), AB11 2C-30 (io), P5 VCCO1 (power), R5 2B-0 (io), R6 GCLK1 (in), T2 2B-2 (io), T3 2B-6 (io), T5 2B-4 (io), T6 2A-22 (io), U1 2B-8 (io), U3 2B-14 (io), U4 2B-10 (io), U5 VCCO1 (power), U6 2A-18 (io), U7 2A-2 (io), U8 2D-28 (io), U9 2C-0 (io), U10 2C-8 (io), U11 2C-24 (io), V1 2B-12 (io), V2 2B-18 (io), V3 2B-22 (io), V4 2A-4 (io), V5 2B-16 (io), V6 VCCO1 (power), V7 2D-0 (io), V8 2D-14 (io), V9 VCCO1 (power), V10 2C-16 (io), V11 2C-12 (io), V12 2C-28 (io), W1 2B-20 (io), W2 2B-24 (io), W3 2B-30 (io), W4 2A-28 (io), W5 2A-26 (io), W6 2A-6 (io), W8 2D-22 (io), W9 2C-4 (io), W10 2C-20 (io), W11 2C-22 (io), Y1 2B-26 (io), Y2 2B-28 (io), Y3 VCCO1 (power), Y4 2A-24 (io), Y5 2A-20 (io), Y6 2D-6 (io), Y7 2D-10 (io), Y8 2D-18 (io), Y10 2D-26 (io)
part C pins: AA12 3C-20 (io), AA13 3C-12/VREF2 (io), AA14 3C-4 (io), AA15 3D-26 (io), AA16 3D-18 (io), AA18 3D-4 (io), AA19 3A-2 (io), AA20 3A-20 (io), AA22 3B-30 (io), AB12 3C-24 (io), AB13 3C-16 (io), AB14 3C-8 (io), AB15 3C-0 (io), AB16 3D-28 (io), AB17 3D-22 (io), AB18 3D-14 (io), AB19 3D-10 (io), AB20 3D-6 (io), AB21 3A-6 (io), P17 GCLK2 (in), P18 VCCO2 (power), R20 3B-0 (io), T17 3B-2 (io), T20 3B-6 (io), T21 3B-4 (io), U12 3C-22 (io), U13 3C-10 (io), U14 3C-2 (io), U15 3D-2 (io), U16 3A-0 (io), U17 3B-10 (io), U18 VCCO2 (power), U19 3B-12 (io), U20 3B-16 (io), U22 3B-8 (io), V13 3C-6 (io), V14 VCCO2 (power), V15 3D-12 (io), V16 3A-4 (io), V17 VCCO2 (power), V18 3B-18 (io), V19 3A-26 (io), V20 3B-24 (io), V21 3B-22 (io), V22 3B-14 (io), W12 3C-30 (io), W13 3C-14 (io), W14 3D-24 (io), W15 3D-8 (io), W17 3D-0 (io), W18 3A-18 (io), W19 3A-22 (io), W20 3A-30 (io), W21 3B-28 (io), W22 3B-20 (io), Y11 3C-28 (io), Y12 3C-26 (io), Y13 3C-18 (io), Y15 3D-30 (io), Y16 3D-20 (io), Y17 3D-16 (io), Y18 3A-16 (io), Y19 3A-24 (io), Y20 VCCO2 (power), Y21 3A-28 (io), Y22 3B-26 (io)
part D pins: A11 5C-30 (io), A12 5C-26 (io), A13 5C-20 (io), A14 5C-16 (io), A15 5C-12/VREF3 (io), A16 5D-28 (io), A17 5D-24 (io), A18 5D-20 (io), A19 5D-12 (io), A20 5D-8 (io), A21 5D-4 (io), B12 5C-22 (io), B13 5C-18 (io), B14 5C-8 (io), B15 5D-26 (io), B16 5D-16 (io), B18 VCCO3 (power), B19 5D-0 (io), B20 5A-2 (io), B22 5A-6 (io), C12 5C-28 (io), C13 5C-24 (io), C15 5C-0 (io), C16 5D-10 (io), C17 5D-2 (io), C18 5A-22 (io), C19 5A-20 (io), C21 5A-16 (io), C22 5A-24 (io), D12 5C-14 (io), D13 5C-2 (io), D14 5D-18 (io), D15 5D-6 (io), D16 VCCO3 (power), D17 5A-18 (io), D18 5A-4 (io), D20 5A-26 (io), D21 5A-28 (io), D22 5A-30 (io), E13 5C-10 (io), E14 VCCO3 (power), E15 5C-4 (io), E17 VCCO3 (power), E19 5B-28 (io), E20 5B-30 (io), E21 VCCO3 (power), E22 5B-26 (io), F13 5C-6 (io), F14 5D-30 (io), F15 5D-22 (io), F16 5D-14 (io), F17 5A-0 (io), F18 VCCO3 (power), F19 5B-20 (io), F20 5B-22 (io), F22 5B-24 (io), G17 5B-16 (io), G19 VCCO3 (power), G20 5B-12 (io), G21 5B-18 (io), G22 5B-14 (io), H17 5B-4 (io), H18 5B-6 (io), H19 5B-0 (io), H20 5B-2 (io), H21 5B-10 (io), H22 5B-8 (io), J17 4A-6 (io), J18 VCCO3 (power), J19 4A-4 (io), J21 4A-0 (io), J22 4A-2 (io), K17 4A-16 (io), K18 4A-8 (io), K19 4A-20 (io), K20 4A-26 (io), K21 4A-10 (io), K22 4A-14 (io), L17 4A-12 (io), L18 4A-24 (io), L19 4B-28 (io), L20 4B-30/CLK_OUT1 (io), L21 4A-22 (io), L22 4A-18 (io), M17 4A-30 (io), M18 4B-12 (io), M19 4B-24 (io), M20 4B-18 (io), M21 4B-26 (io), M22 4A-28 (io), N17 4B-22 (io), N19 4B-14 (io), N20 4B-6/PLL_RST1 (io), N21 4B-10 (io), N22 4B-20 (io), P19 GCLK3 (in), P21 4B-4/PLL_FBK1 (io), P22 4B-16 (io), R21 4B-0 (io), R22 4B-8 (io), T22 4B-2 (io)
part E pins: A1 GND (power), A22 GND (power), AA1 NC, AA2 VCC (power), AA6 VCC (power), AA17 VCC (power), AA21 VCC (power), AB1 GND (power), AB22 GND (power), B2 VCC (power), B6 VCC (power), B17 VCC (power), B21 VCC (power), C3 GND (power), C9 VCC (power), C14 VCC (power), C20 GND (power), D4 GND (power), D19 GND (power), E5 VCC (power), E7 GND (power), E16 GND (power), E18 VCC (power), F2 VCC (power), F21 VCC (power), G5 GND (power), G7 GND (power), G8 GND (power), G9 GND (power), G10 GND (power), G11 GND (power), G12 GND (power), G13 GND (power), G14 GND (power), G15 GND (power), G16 GND (power), G18 GND (power), H7 GND (power), H8 GND (power), H9 GND (power), H10 GND (power), H11 GND (power), H12 GND (power), H13 GND (power), H14 GND (power), H15 GND (power), H16 GND (power), J3 VCC (power), J7 GND (power), J8 GND (power), J9 GND (power), J10 GND (power), J11 GND (power), J12 GND (power), J13 GND (power), J14 GND (power), J15 GND (power), J16 GND (power), J20 VCC (power), K7 GND (power), K8 GND (power), K9 GND (power), K10 GND (power), K11 GND (power), K12 GND (power), K13 GND (power), K14 GND (power), K15 GND (power), K16 GND (power), L6 GNDP0 (power), L7 VCCP0 (power), L8 GND (power), L9 GND (power), L10 GND (power), L11 GND (power), L12 GND (power), L13 GND (power), L14 GND (power), L15 GND (power), L16 GNDP1 (power), M7 GND (power), M8 GND (power), M9 GND (power), M10 GND (power), M11 GND (power), M12 GND (power), M13 GND (power), M14 GND (power), M15 GND (power), M16 GND (power), N7 GND (power), N8 GND (power), N9 GND (power), N10 GND (power), N11 GND (power), N12 GND (power), N13 GND (power), N14 GND (power), N15 GND (power), N16 GND (power), N18 VCCP1 (power), P3 VCC (power), P4 VCCJ (power), P7 GND (power), P8 GND (power), P9 GND (power), P10 GND (power), P11 GND (power), P12 GND (power), P13 GND (power), P14 GND (power), P15 GND (power), P16 GND (power), P20 VCC (power), R2 TDI (in), R3 TCK (in), R4 TDO (out), R7 GND (power), R8 GND (power), R9 GND (power), R10 GND (power), R11 GND (power), R12 GND (power), R13 GND (power), R14 GND (power), R15 GND (power), R16 GND (power), R17 GOE1 (in), R18 GOE0 (in), R19 RESETB (in), T1 TMS (in), T4 GND (power), T7 GND (power), T8 GND (power), T9 GND (power), T10 GND (power), T11 GND (power), T12 GND (power), T13 GND (power), T14 GND (power), T15 GND (power), T16 GND (power), T18 TOE (in), T19 GND (power), U2 VCC (power), U21 VCC (power), W7 GND (power), W16 GND (power), Y9 VCC (power), Y14 VCC (power)
part A text: Bank 0
part B text: Bank 1
part C text: Bank 2
part D text: Bank 3

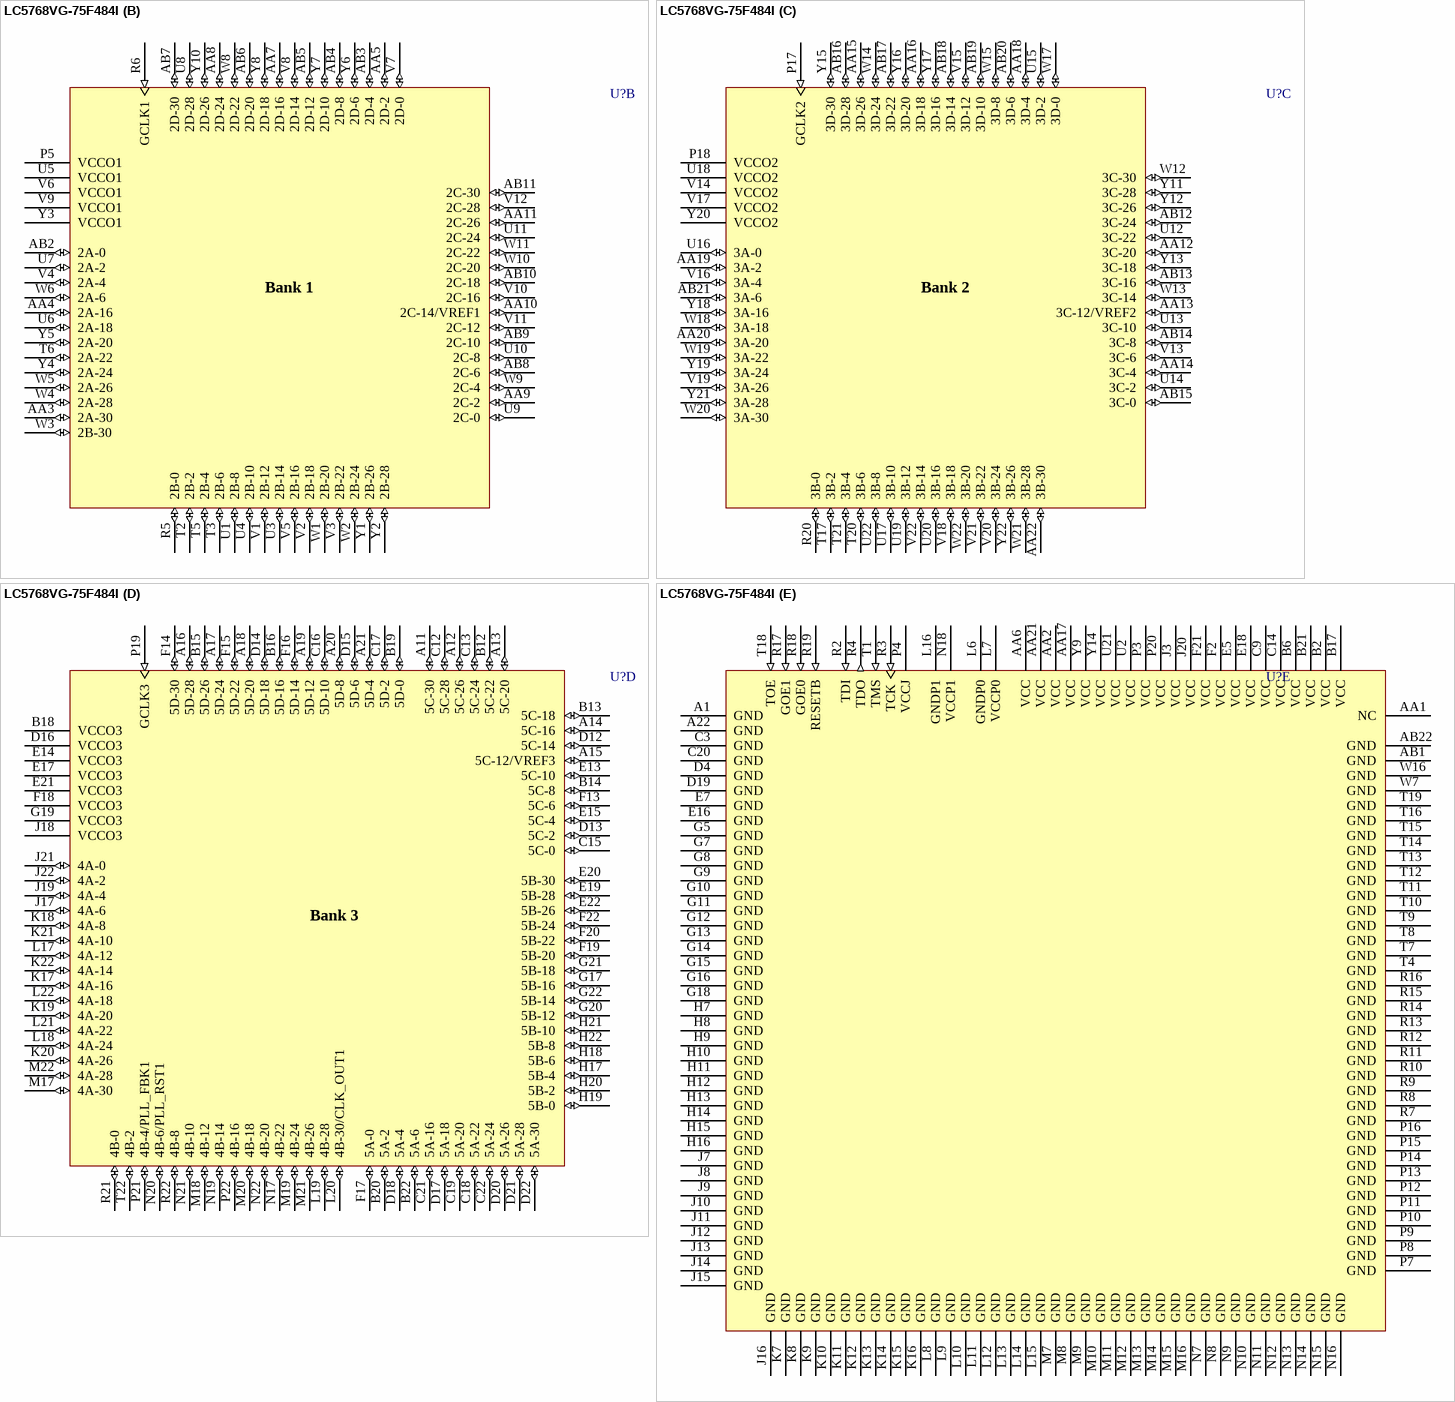
[diagram p11: symbol LC5768VG-75F484I]

## LC5768VG-75F484I
designator U?
ispMACH 5768VG SuperBIG, SuperWIDE, High Density PLD, 3.3 V, 304 User I/Os, 484-Ball fpBGA, 7.5 ns, Industrial Grade; Published: 17-Dec-2003; LatestRevisionDate: 13-Apr-2006; LatestRevisionNote: IPC-7351 Footprint Added.; DatasheetVersion: 5kvg_09; PackageVersion: pkg_32, Aug-2005; PackageReference: fpBGA484; Publisher: Altium Limited; PackageDescription: 484-Ball Fine Pitch Ball Grid Array (fpBGA484); Code_IPC: BGA100P22X22-484; ComponentLink1Description: Manufacturer Link; ComponentLink1URL: http://www.latticesemi.com/; ComponentLink2Description: Datasheet; ComponentLink2URL: http://www.latticesemi.com/account/_download.cfm?AMID=3480; ComponentLink3Description: Lattice Login; ComponentLink3URL: http://www.latticesemi.com/account/login.cfm
footprint fpBGA484 (BGA, 484-Leads, Body 23x23mm, Pitch 1mm)
3D model 5768VG-fpBGA484 (484-Ball Fine Pitch Ball Grid Array (fpBGA484))
part A pins: A2 0D-2 (io), A3 0D-4 (io), A4 0D-0 (io), A5 0D-12 (io), A6 0D-24 (io), A7 0C-2 (io), A8 0C-6 (io), A9 0C-14/VREF0 (io), A10 0C-18 (io), B1 0A-20 (io), B3 0A-6 (io), B4 0A-16 (io), B5 VCCO0 (power), B7 0D-16 (io), B8 0D-30 (io), B9 0C-10 (io), B10 0C-20 (io), B11 0C-28 (io), C1 0A-30 (io), C2 0A-28 (io), C4 0A-24 (io), C5 0A-2 (io), C6 0D-8 (io), C7 0D-20 (io), C8 0D-28 (io), C10 0C-4 (io), C11 0C-24 (io), D1 0B-30 (io), D2 0B-28 (io), D3 0B-26 (io), D5 0A-18 (io), D6 0A-22 (io), D7 VCCO0 (power), D8 0D-6 (io), D9 0D-18 (io), D10 0C-16 (io), D11 0C-30 (io), E1 0B-24 (io), E2 VCCO0 (power), E3 0B-22 (io), E4 0A-26 (io), E6 VCCO0 (power), E8 0D-14 (io), E9 VCCO0 (power), E10 0C-0 (io), E11 0C-12 (io), E12 0C-26 (io), F1 0B-18 (io), F3 0B-16 (io), F4 0B-20 (io), F5 VCCO0 (power), F6 0A-4 (io), F7 0A-0 (io), F8 0D-10 (io), F9 0D-22 (io), F10 0D-26 (io), F11 0C-8 (io), F12 0C-22 (io), G1 0B-12 (io), G2 0B-10 (io), G3 0B-6 (io), G4 VCCO0 (power), G6 0B-14 (io), H1 0B-8 (io), H2 0B-4 (io), H3 1A-4 (io), H4 1A-8 (io), H5 0B-2 (io), H6 0B-0 (io), J1 1A-0 (io), J2 1A-6 (io), J4 1A-18 (io), J5 VCCO0 (power), J6 1A-12 (io), K1 1A-2 (io), K2 1A-10 (io), K3 1A-16 (io), K4 1A-26 (io), K5 1A-30 (io), K6 1A-24 (io), L1 1A-14 (io), L2 1A-20 (io), L3 1A-28 (io), L4 1B-24 (io), L5 1B-18 (io), M1 1A-22 (io), M2 1B-28 (io), M3 1B-20 (io), M4 1B-6/PLL_RST0 (io), M5 1B-8 (io), M6 1B-10 (io), N1 1B-30/CLK_OUT0 (io), N2 1B-22 (io), N3 1B-12 (io), N4 1B-4/PLL_FBK0 (io), N5 1B-0 (io), N6 1B-2 (io), P1 1B-26 (io), P2 1B-14 (io), P6 GCLK0 (in), R1 1B-16 (io)
part B pins: AA3 2A-30 (io), AA4 2A-16 (io), AA5 2D-2 (io), AA7 2D-16 (io), AA8 2D-24 (io), AA9 2C-2 (io), AA10 2C-14/VREF1 (io), AA11 2C-26 (io), AB2 2A-0 (io), AB3 2D-4 (io), AB4 2D-8 (io), AB5 2D-12 (io), AB6 2D-20 (io), AB7 2D-30 (io), AB8 2C-6 (io), AB9 2C-10 (io), AB10 2C-18 (io), AB11 2C-30 (io), P5 VCCO1 (power), R5 2B-0 (io), R6 GCLK1 (in), T2 2B-2 (io), T3 2B-6 (io), T5 2B-4 (io), T6 2A-22 (io), U1 2B-8 (io), U3 2B-14 (io), U4 2B-10 (io), U5 VCCO1 (power), U6 2A-18 (io), U7 2A-2 (io), U8 2D-28 (io), U9 2C-0 (io), U10 2C-8 (io), U11 2C-24 (io), V1 2B-12 (io), V2 2B-18 (io), V3 2B-22 (io), V4 2A-4 (io), V5 2B-16 (io), V6 VCCO1 (power), V7 2D-0 (io), V8 2D-14 (io), V9 VCCO1 (power), V10 2C-16 (io), V11 2C-12 (io), V12 2C-28 (io), W1 2B-20 (io), W2 2B-24 (io), W3 2B-30 (io), W4 2A-28 (io), W5 2A-26 (io), W6 2A-6 (io), W8 2D-22 (io), W9 2C-4 (io), W10 2C-20 (io), W11 2C-22 (io), Y1 2B-26 (io), Y2 2B-28 (io), Y3 VCCO1 (power), Y4 2A-24 (io), Y5 2A-20 (io), Y6 2D-6 (io), Y7 2D-10 (io), Y8 2D-18 (io), Y10 2D-26 (io)
part C pins: AA12 3C-20 (io), AA13 3C-12/VREF2 (io), AA14 3C-4 (io), AA15 3D-26 (io), AA16 3D-18 (io), AA18 3D-4 (io), AA19 3A-2 (io), AA20 3A-20 (io), AA22 3B-30 (io), AB12 3C-24 (io), AB13 3C-16 (io), AB14 3C-8 (io), AB15 3C-0 (io), AB16 3D-28 (io), AB17 3D-22 (io), AB18 3D-14 (io), AB19 3D-10 (io), AB20 3D-6 (io), AB21 3A-6 (io), P17 GCLK2 (in), P18 VCCO2 (power), R20 3B-0 (io), T17 3B-2 (io), T20 3B-6 (io), T21 3B-4 (io), U12 3C-22 (io), U13 3C-10 (io), U14 3C-2 (io), U15 3D-2 (io), U16 3A-0 (io), U17 3B-10 (io), U18 VCCO2 (power), U19 3B-12 (io), U20 3B-16 (io), U22 3B-8 (io), V13 3C-6 (io), V14 VCCO2 (power), V15 3D-12 (io), V16 3A-4 (io), V17 VCCO2 (power), V18 3B-18 (io), V19 3A-26 (io), V20 3B-24 (io), V21 3B-22 (io), V22 3B-14 (io), W12 3C-30 (io), W13 3C-14 (io), W14 3D-24 (io), W15 3D-8 (io), W17 3D-0 (io), W18 3A-18 (io), W19 3A-22 (io), W20 3A-30 (io), W21 3B-28 (io), W22 3B-20 (io), Y11 3C-28 (io), Y12 3C-26 (io), Y13 3C-18 (io), Y15 3D-30 (io), Y16 3D-20 (io), Y17 3D-16 (io), Y18 3A-16 (io), Y19 3A-24 (io), Y20 VCCO2 (power), Y21 3A-28 (io), Y22 3B-26 (io)
part D pins: A11 5C-30 (io), A12 5C-26 (io), A13 5C-20 (io), A14 5C-16 (io), A15 5C-12/VREF3 (io), A16 5D-28 (io), A17 5D-24 (io), A18 5D-20 (io), A19 5D-12 (io), A20 5D-8 (io), A21 5D-4 (io), B12 5C-22 (io), B13 5C-18 (io), B14 5C-8 (io), B15 5D-26 (io), B16 5D-16 (io), B18 VCCO3 (power), B19 5D-0 (io), B20 5A-2 (io), B22 5A-6 (io), C12 5C-28 (io), C13 5C-24 (io), C15 5C-0 (io), C16 5D-10 (io), C17 5D-2 (io), C18 5A-22 (io), C19 5A-20 (io), C21 5A-16 (io), C22 5A-24 (io), D12 5C-14 (io), D13 5C-2 (io), D14 5D-18 (io), D15 5D-6 (io), D16 VCCO3 (power), D17 5A-18 (io), D18 5A-4 (io), D20 5A-26 (io), D21 5A-28 (io), D22 5A-30 (io), E13 5C-10 (io), E14 VCCO3 (power), E15 5C-4 (io), E17 VCCO3 (power), E19 5B-28 (io), E20 5B-30 (io), E21 VCCO3 (power), E22 5B-26 (io), F13 5C-6 (io), F14 5D-30 (io), F15 5D-22 (io), F16 5D-14 (io), F17 5A-0 (io), F18 VCCO3 (power), F19 5B-20 (io), F20 5B-22 (io), F22 5B-24 (io), G17 5B-16 (io), G19 VCCO3 (power), G20 5B-12 (io), G21 5B-18 (io), G22 5B-14 (io), H17 5B-4 (io), H18 5B-6 (io), H19 5B-0 (io), H20 5B-2 (io), H21 5B-10 (io), H22 5B-8 (io), J17 4A-6 (io), J18 VCCO3 (power), J19 4A-4 (io), J21 4A-0 (io), J22 4A-2 (io), K17 4A-16 (io), K18 4A-8 (io), K19 4A-20 (io), K20 4A-26 (io), K21 4A-10 (io), K22 4A-14 (io), L17 4A-12 (io), L18 4A-24 (io), L19 4B-28 (io), L20 4B-30/CLK_OUT1 (io), L21 4A-22 (io), L22 4A-18 (io), M17 4A-30 (io), M18 4B-12 (io), M19 4B-24 (io), M20 4B-18 (io), M21 4B-26 (io), M22 4A-28 (io), N17 4B-22 (io), N19 4B-14 (io), N20 4B-6/PLL_RST1 (io), N21 4B-10 (io), N22 4B-20 (io), P19 GCLK3 (in), P21 4B-4/PLL_FBK1 (io), P22 4B-16 (io), R21 4B-0 (io), R22 4B-8 (io), T22 4B-2 (io)
part E pins: A1 GND (power), A22 GND (power), AA1 NC, AA2 VCC (power), AA6 VCC (power), AA17 VCC (power), AA21 VCC (power), AB1 GND (power), AB22 GND (power), B2 VCC (power), B6 VCC (power), B17 VCC (power), B21 VCC (power), C3 GND (power), C9 VCC (power), C14 VCC (power), C20 GND (power), D4 GND (power), D19 GND (power), E5 VCC (power), E7 GND (power), E16 GND (power), E18 VCC (power), F2 VCC (power), F21 VCC (power), G5 GND (power), G7 GND (power), G8 GND (power), G9 GND (power), G10 GND (power), G11 GND (power), G12 GND (power), G13 GND (power), G14 GND (power), G15 GND (power), G16 GND (power), G18 GND (power), H7 GND (power), H8 GND (power), H9 GND (power), H10 GND (power), H11 GND (power), H12 GND (power), H13 GND (power), H14 GND (power), H15 GND (power), H16 GND (power), J3 VCC (power), J7 GND (power), J8 GND (power), J9 GND (power), J10 GND (power), J11 GND (power), J12 GND (power), J13 GND (power), J14 GND (power), J15 GND (power), J16 GND (power), J20 VCC (power), K7 GND (power), K8 GND (power), K9 GND (power), K10 GND (power), K11 GND (power), K12 GND (power), K13 GND (power), K14 GND (power), K15 GND (power), K16 GND (power), L6 GNDP0 (power), L7 VCCP0 (power), L8 GND (power), L9 GND (power), L10 GND (power), L11 GND (power), L12 GND (power), L13 GND (power), L14 GND (power), L15 GND (power), L16 GNDP1 (power), M7 GND (power), M8 GND (power), M9 GND (power), M10 GND (power), M11 GND (power), M12 GND (power), M13 GND (power), M14 GND (power), M15 GND (power), M16 GND (power), N7 GND (power), N8 GND (power), N9 GND (power), N10 GND (power), N11 GND (power), N12 GND (power), N13 GND (power), N14 GND (power), N15 GND (power), N16 GND (power), N18 VCCP1 (power), P3 VCC (power), P4 VCCJ (power), P7 GND (power), P8 GND (power), P9 GND (power), P10 GND (power), P11 GND (power), P12 GND (power), P13 GND (power), P14 GND (power), P15 GND (power), P16 GND (power), P20 VCC (power), R2 TDI (in), R3 TCK (in), R4 TDO (out), R7 GND (power), R8 GND (power), R9 GND (power), R10 GND (power), R11 GND (power), R12 GND (power), R13 GND (power), R14 GND (power), R15 GND (power), R16 GND (power), R17 GOE1 (in), R18 GOE0 (in), R19 RESETB (in), T1 TMS (in), T4 GND (power), T7 GND (power), T8 GND (power), T9 GND (power), T10 GND (power), T11 GND (power), T12 GND (power), T13 GND (power), T14 GND (power), T15 GND (power), T16 GND (power), T18 TOE (in), T19 GND (power), U2 VCC (power), U21 VCC (power), W7 GND (power), W16 GND (power), Y9 VCC (power), Y14 VCC (power)
part A text: Bank 0
part B text: Bank 1
part C text: Bank 2
part D text: Bank 3

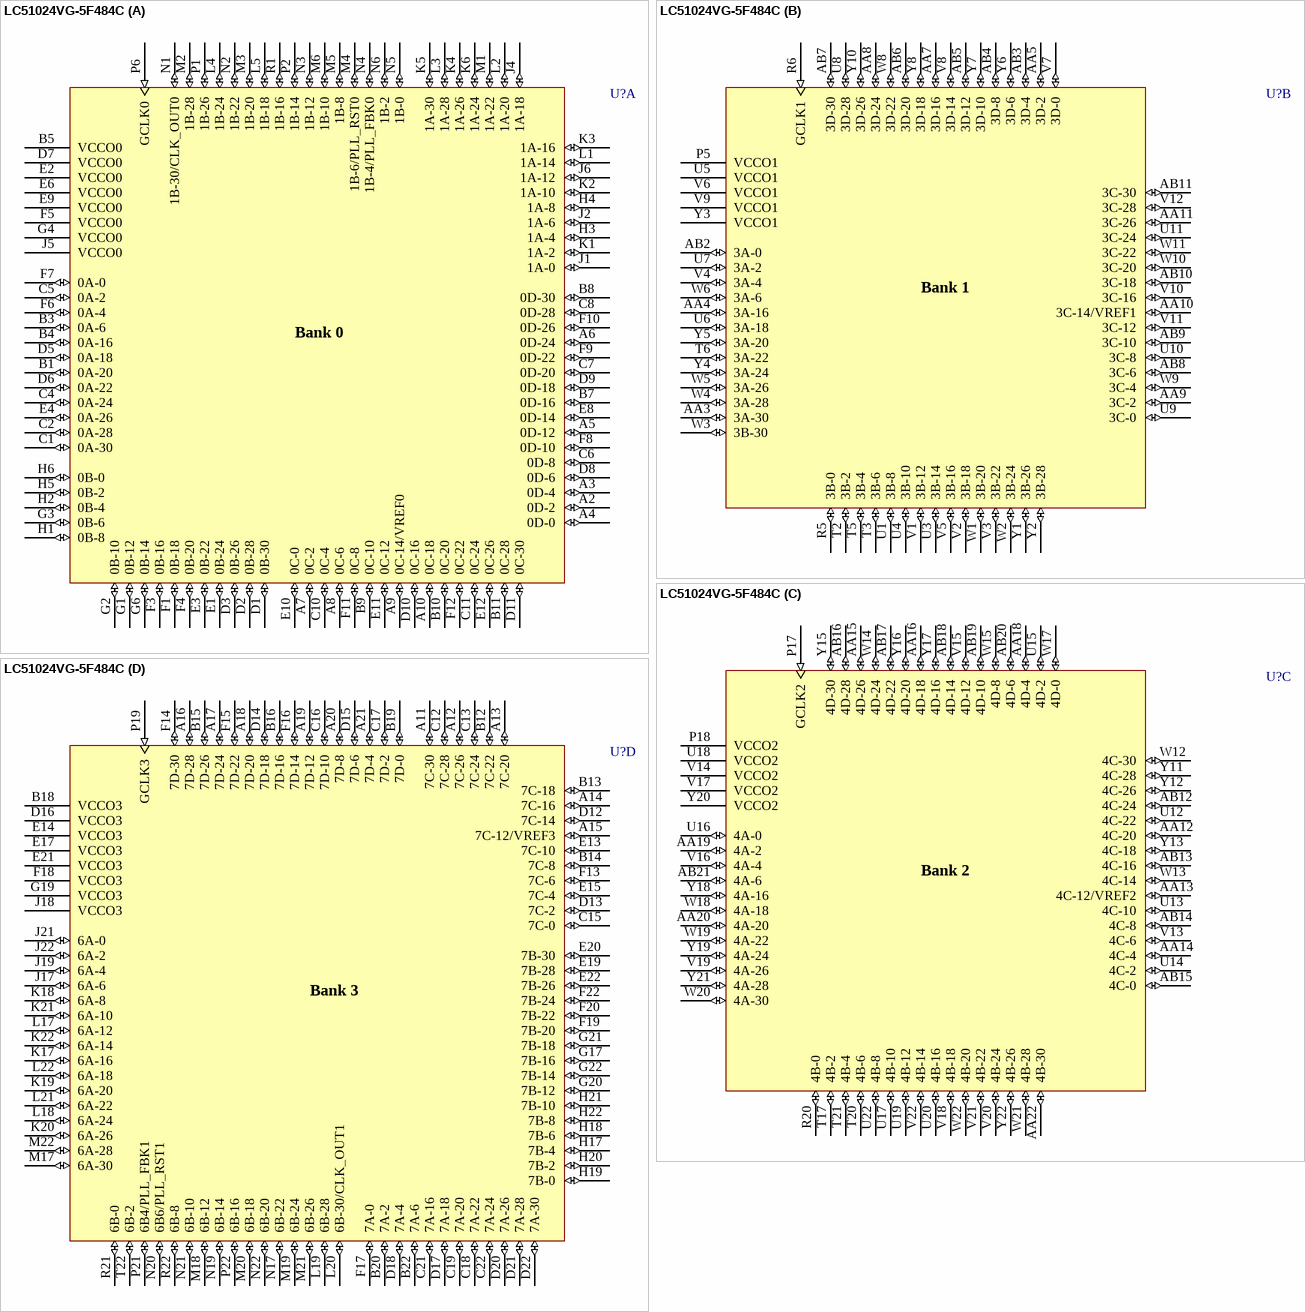
[diagram p12: symbol LC51024VG-5F484C]

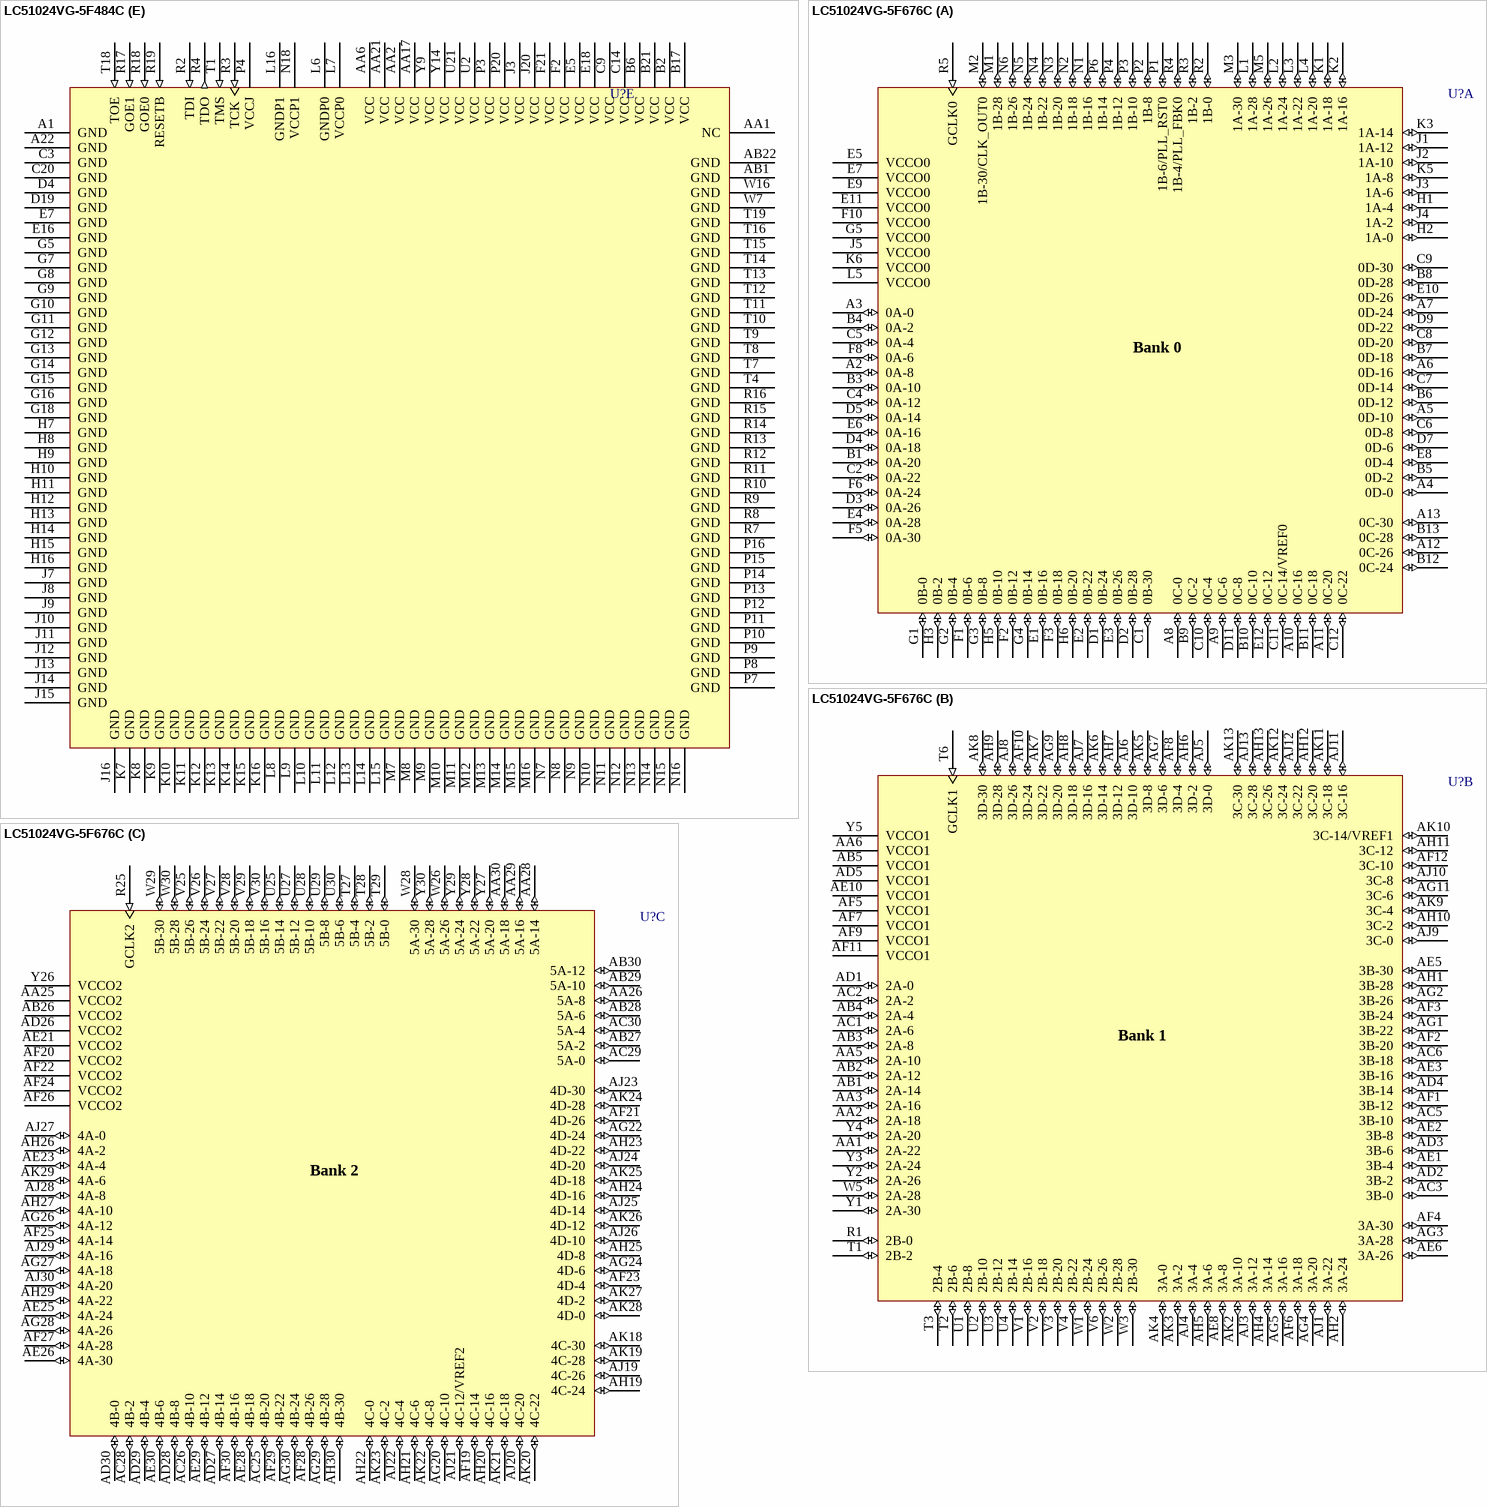
[diagram p13: symbols LC51024VG-5F484C to LC51024VG-5F676C]

## LC51024VG-5F484C
designator U?
ispMACH 51024VG SuperBIG, SuperWIDE, High Density PLD, 3.3 V, 304 User I/Os, 484-Ball fpBGA, 5.0 ns, Commercial Grade; Published: 17-Dec-2003; LatestRevisionDate: 13-Apr-2006; LatestRevisionNote: IPC-7351 Footprint Added.; DatasheetVersion: 5kvg_09; PackageVersion: pkg_32, Aug-2005; PackageReference: fpBGA484; Publisher: Altium Limited; PackageDescription: 484-Ball Fine Pitch Ball Grid Array (fpBGA484); Code_IPC: BGA100P22X22-484; ComponentLink1Description: Manufacturer Link; ComponentLink1URL: http://www.latticesemi.com/; ComponentLink2Description: Datasheet; ComponentLink2URL: http://www.latticesemi.com/account/_download.cfm?AMID=3480; ComponentLink3Description: Lattice Login; ComponentLink3URL: http://www.latticesemi.com/account/login.cfm
footprint fpBGA484 (BGA, 484-Leads, Body 23x23mm, Pitch 1mm)
3D model 51024VG-fpBGA484 (484-Ball Fine Pitch Ball Grid Array (fpBGA484))
part A pins: A2 0D-2 (io), A3 0D-4 (io), A4 0D-0 (io), A5 0D-12 (io), A6 0D-24 (io), A7 0C-2 (io), A8 0C-6 (io), A9 0C-14/VREF0 (io), A10 0C-18 (io), B1 0A-20 (io), B3 0A-6 (io), B4 0A-16 (io), B5 VCCO0 (power), B7 0D-16 (io), B8 0D-30 (io), B9 0C-10 (io), B10 0C-20 (io), B11 0C-28 (io), C1 0A-30 (io), C2 0A-28 (io), C4 0A-24 (io), C5 0A-2 (io), C6 0D-8 (io), C7 0D-20 (io), C8 0D-28 (io), C10 0C-4 (io), C11 0C-24 (io), D1 0B-30 (io), D2 0B-28 (io), D3 0B-26 (io), D5 0A-18 (io), D6 0A-22 (io), D7 VCCO0 (power), D8 0D-6 (io), D9 0D-18 (io), D10 0C-16 (io), D11 0C-30 (io), E1 0B-24 (io), E2 VCCO0 (power), E3 0B-22 (io), E4 0A-26 (io), E6 VCCO0 (power), E8 0D-14 (io), E9 VCCO0 (power), E10 0C-0 (io), E11 0C-12 (io), E12 0C-26 (io), F1 0B-18 (io), F3 0B-16 (io), F4 0B-20 (io), F5 VCCO0 (power), F6 0A-4 (io), F7 0A-0 (io), F8 0D-10 (io), F9 0D-22 (io), F10 0D-26 (io), F11 0C-8 (io), F12 0C-22 (io), G1 0B-12 (io), G2 0B-10 (io), G3 0B-6 (io), G4 VCCO0 (power), G6 0B-14 (io), H1 0B-8 (io), H2 0B-4 (io), H3 1A-4 (io), H4 1A-8 (io), H5 0B-2 (io), H6 0B-0 (io), J1 1A-0 (io), J2 1A-6 (io), J4 1A-18 (io), J5 VCCO0 (power), J6 1A-12 (io), K1 1A-2 (io), K2 1A-10 (io), K3 1A-16 (io), K4 1A-26 (io), K5 1A-30 (io), K6 1A-24 (io), L1 1A-14 (io), L2 1A-20 (io), L3 1A-28 (io), L4 1B-24 (io), L5 1B-18 (io), M1 1A-22 (io), M2 1B-28 (io), M3 1B-20 (io), M4 1B-6/PLL_RST0 (io), M5 1B-8 (io), M6 1B-10 (io), N1 1B-30/CLK_OUT0 (io), N2 1B-22 (io), N3 1B-12 (io), N4 1B-4/PLL_FBK0 (io), N5 1B-0 (io), N6 1B-2 (io), P1 1B-26 (io), P2 1B-14 (io), P6 GCLK0 (in), R1 1B-16 (io)
part B pins: AA3 3A-30 (io), AA4 3A-16 (io), AA5 3D-2 (io), AA7 3D-16 (io), AA8 3D-24 (io), AA9 3C-2 (io), AA10 3C-14/VREF1 (io), AA11 3C-26 (io), AB2 3A-0 (io), AB3 3D-4 (io), AB4 3D-8 (io), AB5 3D-12 (io), AB6 3D-20 (io), AB7 3D-30 (io), AB8 3C-6 (io), AB9 3C-10 (io), AB10 3C-18 (io), AB11 3C-30 (io), P5 VCCO1 (power), R5 3B-0 (io), R6 GCLK1 (in), T2 3B-2 (io), T3 3B-6 (io), T5 3B-4 (io), T6 3A-22 (io), U1 3B-8 (io), U3 3B-14 (io), U4 3B-10 (io), U5 VCCO1 (power), U6 3A-18 (io), U7 3A-2 (io), U8 3D-28 (io), U9 3C-0 (io), U10 3C-8 (io), U11 3C-24 (io), V1 3B-12 (io), V2 3B-18 (io), V3 3B-22 (io), V4 3A-4 (io), V5 3B-16 (io), V6 VCCO1 (power), V7 3D-0 (io), V8 3D-14 (io), V9 VCCO1 (power), V10 3C-16 (io), V11 3C-12 (io), V12 3C-28 (io), W1 3B-20 (io), W2 3B-24 (io), W3 3B-30 (io), W4 3A-28 (io), W5 3A-26 (io), W6 3A-6 (io), W8 3D-22 (io), W9 3C-4 (io), W10 3C-20 (io), W11 3C-22 (io), Y1 3B-26 (io), Y2 3B-28 (io), Y3 VCCO1 (power), Y4 3A-24 (io), Y5 3A-20 (io), Y6 3D-6 (io), Y7 3D-10 (io), Y8 3D-18 (io), Y10 3D-26 (io)
part C pins: AA12 4C-20 (io), AA13 4C-12/VREF2 (io), AA14 4C-4 (io), AA15 4D-26 (io), AA16 4D-18 (io), AA18 4D-4 (io), AA19 4A-2 (io), AA20 4A-20 (io), AA22 4B-30 (io), AB12 4C-24 (io), AB13 4C-16 (io), AB14 4C-8 (io), AB15 4C-0 (io), AB16 4D-28 (io), AB17 4D-22 (io), AB18 4D-14 (io), AB19 4D-10 (io), AB20 4D-6 (io), AB21 4A-6 (io), P17 GCLK2 (in), P18 VCCO2 (power), R20 4B-0 (io), T17 4B-2 (io), T20 4B-6 (io), T21 4B-4 (io), U12 4C-22 (io), U13 4C-10 (io), U14 4C-2 (io), U15 4D-2 (io), U16 4A-0 (io), U17 4B-10 (io), U18 VCCO2 (power), U19 4B-12 (io), U20 4B-16 (io), U22 4B-8 (io), V13 4C-6 (io), V14 VCCO2 (power), V15 4D-12 (io), V16 4A-4 (io), V17 VCCO2 (power), V18 4B-18 (io), V19 4A-26 (io), V20 4B-24 (io), V21 4B-22 (io), V22 4B-14 (io), W12 4C-30 (io), W13 4C-14 (io), W14 4D-24 (io), W15 4D-8 (io), W17 4D-0 (io), W18 4A-18 (io), W19 4A-22 (io), W20 4A-30 (io), W21 4B-28 (io), W22 4B-20 (io), Y11 4C-28 (io), Y12 4C-26 (io), Y13 4C-18 (io), Y15 4D-30 (io), Y16 4D-20 (io), Y17 4D-16 (io), Y18 4A-16 (io), Y19 4A-24 (io), Y20 VCCO2 (power), Y21 4A-28 (io), Y22 4B-26 (io)
part D pins: A11 7C-30 (io), A12 7C-26 (io), A13 7C-20 (io), A14 7C-16 (io), A15 7C-12/VREF3 (io), A16 7D-28 (io), A17 7D-24 (io), A18 7D-20 (io), A19 7D-12 (io), A20 7D-8 (io), A21 7D-4 (io), B12 7C-22 (io), B13 7C-18 (io), B14 7C-8 (io), B15 7D-26 (io), B16 7D-16 (io), B18 VCCO3 (power), B19 7D-0 (io), B20 7A-2 (io), B22 7A-6 (io), C12 7C-28 (io), C13 7C-24 (io), C15 7C-0 (io), C16 7D-10 (io), C17 7D-2 (io), C18 7A-22 (io), C19 7A-20 (io), C21 7A-16 (io), C22 7A-24 (io), D12 7C-14 (io), D13 7C-2 (io), D14 7D-18 (io), D15 7D-6 (io), D16 VCCO3 (power), D17 7A-18 (io), D18 7A-4 (io), D20 7A-26 (io), D21 7A-28 (io), D22 7A-30 (io), E13 7C-10 (io), E14 VCCO3 (power), E15 7C-4 (io), E17 VCCO3 (power), E19 7B-28 (io), E20 7B-30 (io), E21 VCCO3 (power), E22 7B-26 (io), F13 7C-6 (io), F14 7D-30 (io), F15 7D-22 (io), F16 7D-14 (io), F17 7A-0 (io), F18 VCCO3 (power), F19 7B-20 (io), F20 7B-22 (io), F22 7B-24 (io), G17 7B-16 (io), G19 VCCO3 (power), G20 7B-12 (io), G21 7B-18 (io), G22 7B-14 (io), H17 7B-4 (io), H18 7B-6 (io), H19 7B-0 (io), H20 7B-2 (io), H21 7B-10 (io), H22 7B-8 (io), J17 6A-6 (io), J18 VCCO3 (power), J19 6A-4 (io), J21 6A-0 (io), J22 6A-2 (io), K17 6A-16 (io), K18 6A-8 (io), K19 6A-20 (io), K20 6A-26 (io), K21 6A-10 (io), K22 6A-14 (io), L17 6A-12 (io), L18 6A-24 (io), L19 6B-28 (io), L20 6B-30/CLK_OUT1 (io), L21 6A-22 (io), L22 6A-18 (io), M17 6A-30 (io), M18 6B-12 (io), M19 6B-24 (io), M20 6B-18 (io), M21 6B-26 (io), M22 6A-28 (io), N17 6B-22 (io), N19 6B-14 (io), N20 6B6/PLL_RST1 (io), N21 6B-10 (io), N22 6B-20 (io), P19 GCLK3 (in), P21 6B4/PLL_FBK1 (io), P22 6B-16 (io), R21 6B-0 (io), R22 6B-8 (io), T22 6B-2 (io)
part E pins: A1 GND (power), A22 GND (power), AA1 NC, AA2 VCC (power), AA6 VCC (power), AA17 VCC (power), AA21 VCC (power), AB1 GND (power), AB22 GND (power), B2 VCC (power), B6 VCC (power), B17 VCC (power), B21 VCC (power), C3 GND (power), C9 VCC (power), C14 VCC (power), C20 GND (power), D4 GND (power), D19 GND (power), E5 VCC (power), E7 GND (power), E16 GND (power), E18 VCC (power), F2 VCC (power), F21 VCC (power), G5 GND (power), G7 GND (power), G8 GND (power), G9 GND (power), G10 GND (power), G11 GND (power), G12 GND (power), G13 GND (power), G14 GND (power), G15 GND (power), G16 GND (power), G18 GND (power), H7 GND (power), H8 GND (power), H9 GND (power), H10 GND (power), H11 GND (power), H12 GND (power), H13 GND (power), H14 GND (power), H15 GND (power), H16 GND (power), J3 VCC (power), J7 GND (power), J8 GND (power), J9 GND (power), J10 GND (power), J11 GND (power), J12 GND (power), J13 GND (power), J14 GND (power), J15 GND (power), J16 GND (power), J20 VCC (power), K7 GND (power), K8 GND (power), K9 GND (power), K10 GND (power), K11 GND (power), K12 GND (power), K13 GND (power), K14 GND (power), K15 GND (power), K16 GND (power), L6 GNDP0 (power), L7 VCCP0 (power), L8 GND (power), L9 GND (power), L10 GND (power), L11 GND (power), L12 GND (power), L13 GND (power), L14 GND (power), L15 GND (power), L16 GNDP1 (power), M7 GND (power), M8 GND (power), M9 GND (power), M10 GND (power), M11 GND (power), M12 GND (power), M13 GND (power), M14 GND (power), M15 GND (power), M16 GND (power), N7 GND (power), N8 GND (power), N9 GND (power), N10 GND (power), N11 GND (power), N12 GND (power), N13 GND (power), N14 GND (power), N15 GND (power), N16 GND (power), N18 VCCP1 (power), P3 VCC (power), P4 VCCJ (power), P7 GND (power), P8 GND (power), P9 GND (power), P10 GND (power), P11 GND (power), P12 GND (power), P13 GND (power), P14 GND (power), P15 GND (power), P16 GND (power), P20 VCC (power), R2 TDI (in), R3 TCK (in), R4 TDO (out), R7 GND (power), R8 GND (power), R9 GND (power), R10 GND (power), R11 GND (power), R12 GND (power), R13 GND (power), R14 GND (power), R15 GND (power), R16 GND (power), R17 GOE1 (in), R18 GOE0 (in), R19 RESETB (in), T1 TMS (in), T4 GND (power), T7 GND (power), T8 GND (power), T9 GND (power), T10 GND (power), T11 GND (power), T12 GND (power), T13 GND (power), T14 GND (power), T15 GND (power), T16 GND (power), T18 TOE (in), T19 GND (power), U2 VCC (power), U21 VCC (power), W7 GND (power), W16 GND (power), Y9 VCC (power), Y14 VCC (power)
part A text: Bank 0
part B text: Bank 1
part C text: Bank 2
part D text: Bank 3

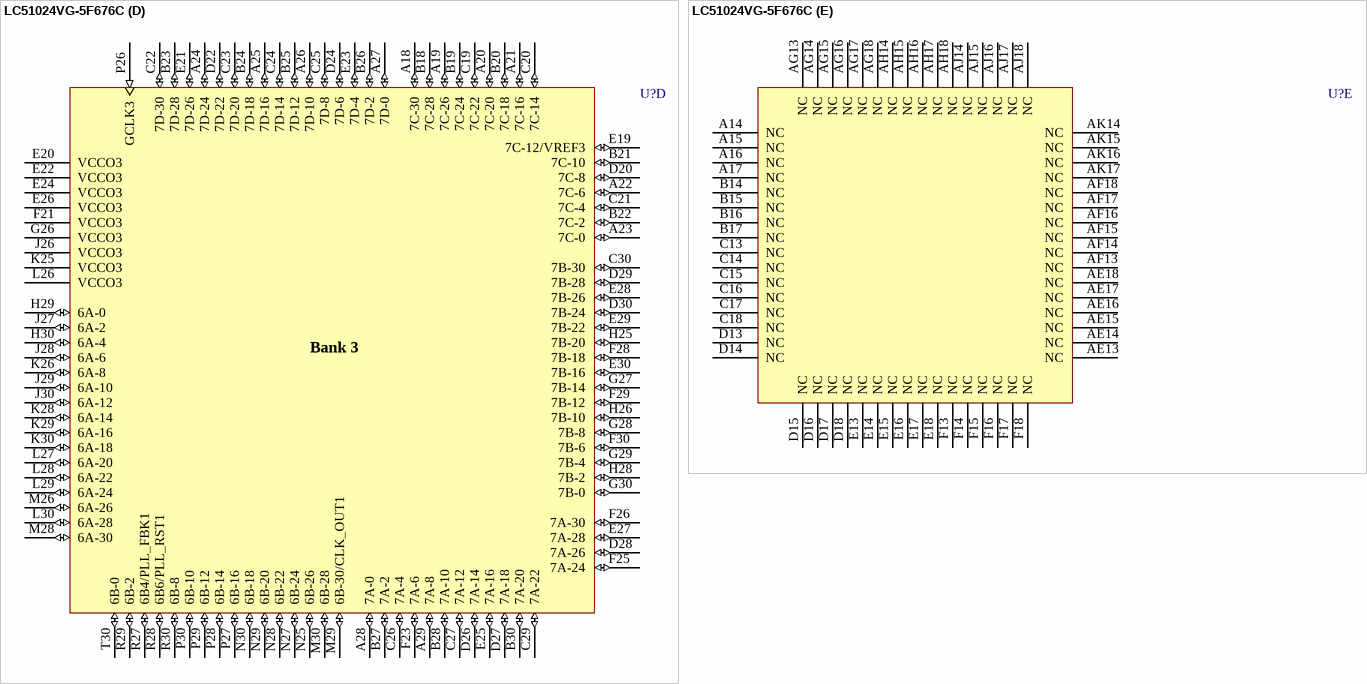
[diagram p14: symbol LC51024VG-5F676C]

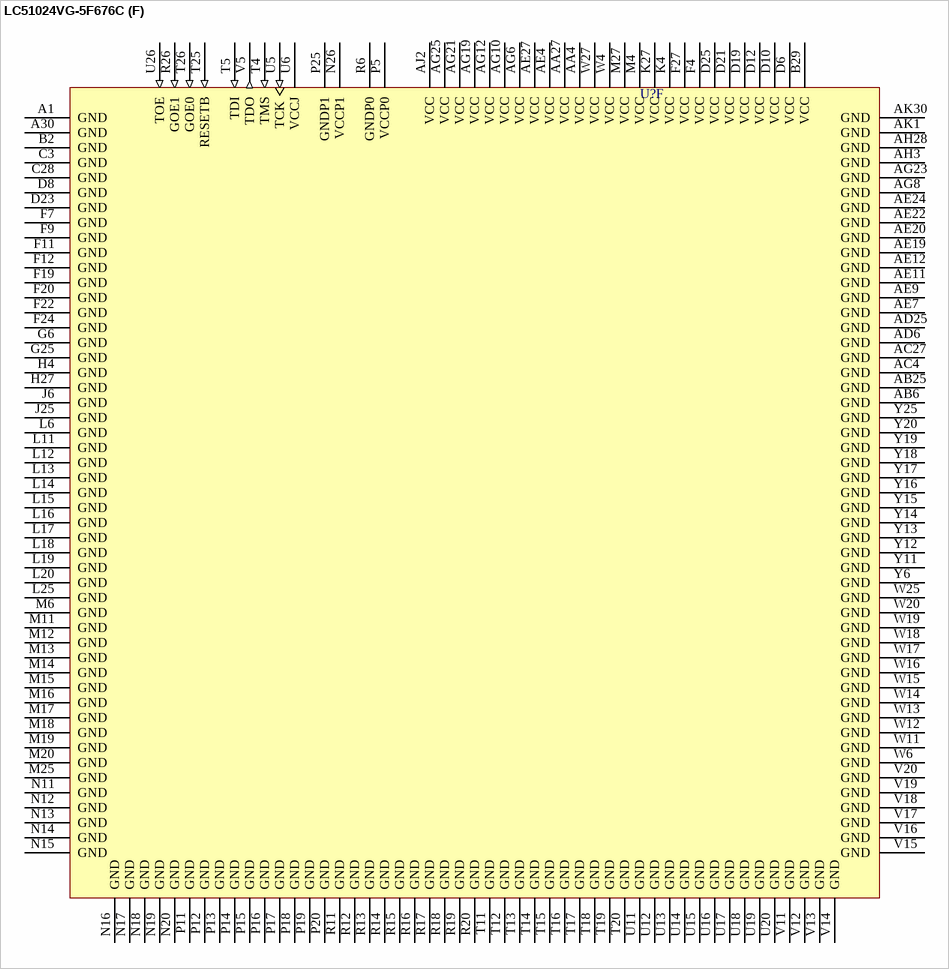
[diagram p15: symbol LC51024VG-5F676C]